# Altium schematic symbol library hphonglib.SchLib: 598 symbols (part 2 of 8)
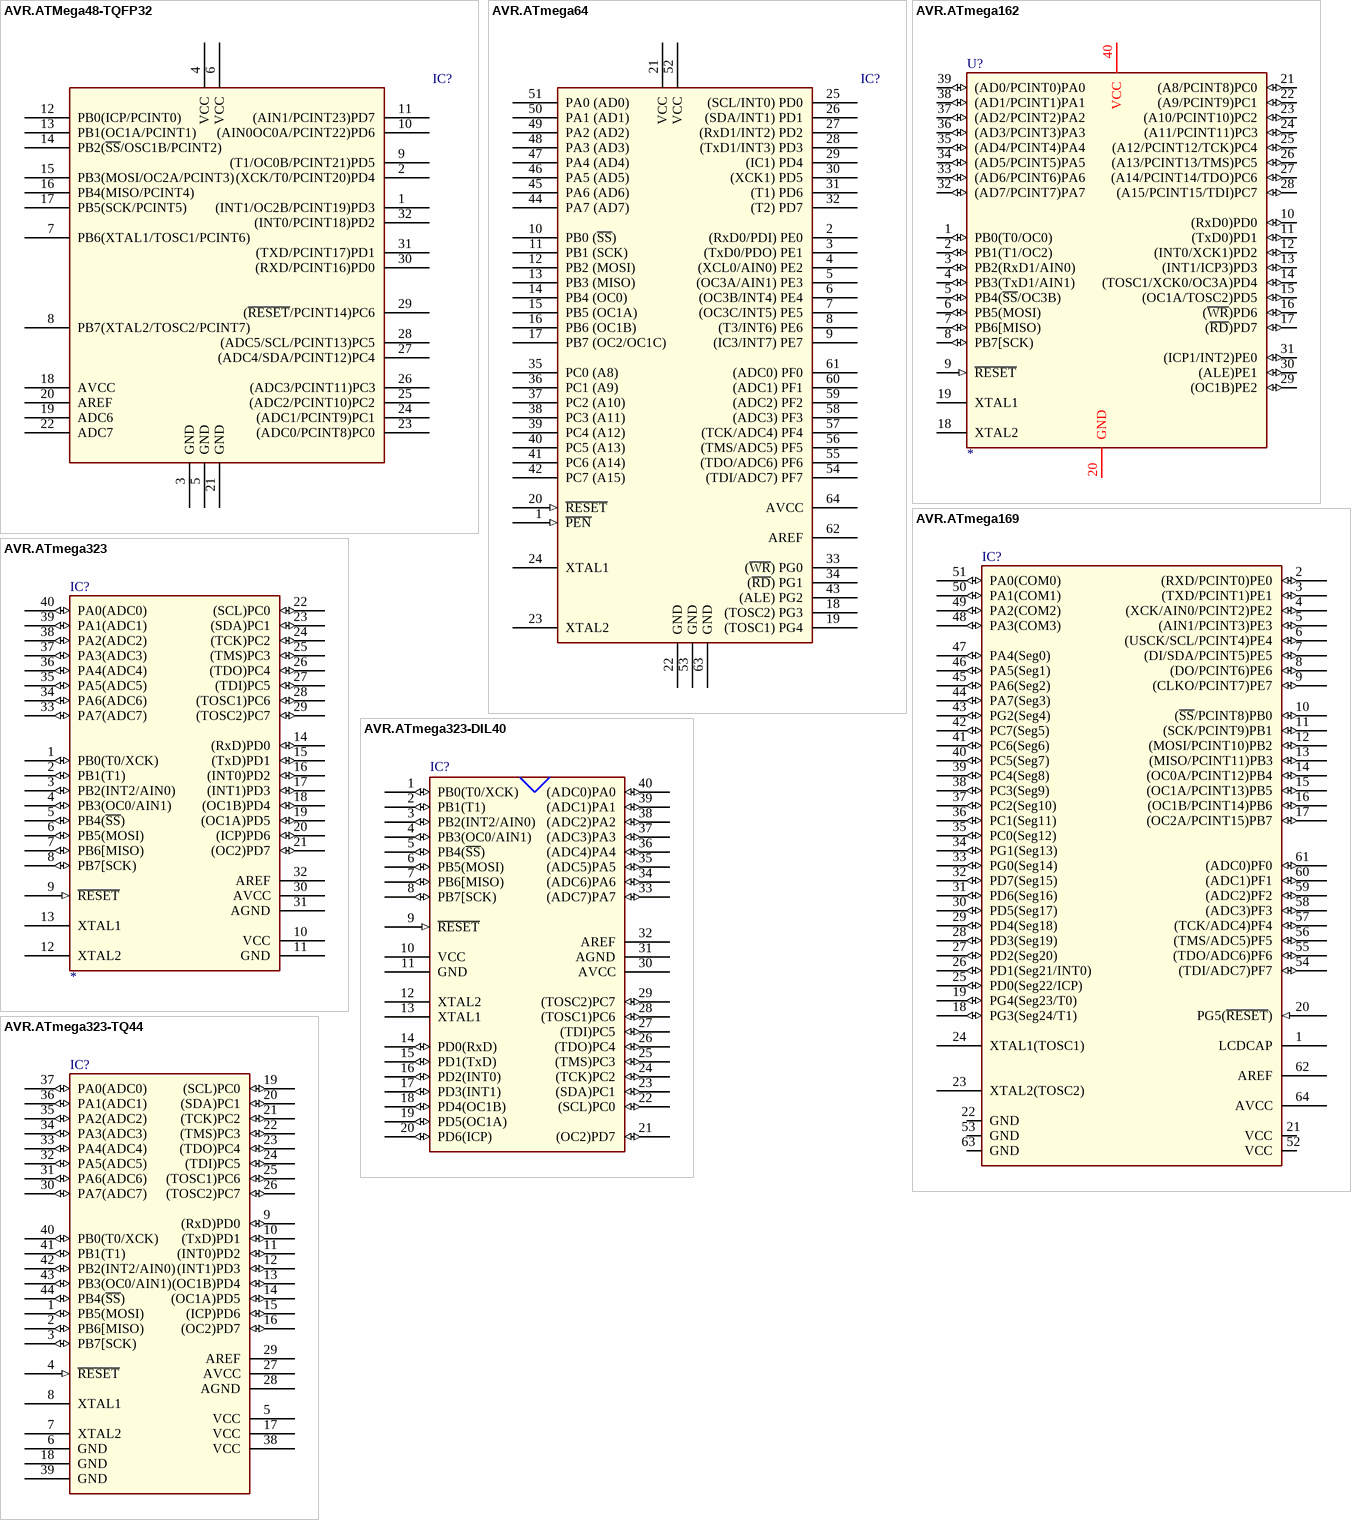
[diagram p32: symbols AVR.ATMega48-TQFP32 to AVR.ATmega323-TQ44]

## AVR.ATmega169
designator IC?  (value not drawn)
Manufacturer: Atmel; Flash: Kb; SRAM: Bytes; Volt: V; CPU Speed (MIPS): 0 MIPS; ComponentLink1Description: Degikey Part link; ComponentLink2Description: Open DataSheet; ComponentLink2URL: H:\LIBRARY\LIBRARY.Datasheet\; Publisher: Hoang Nguyen
footprint MLF64
pins: 1 LCDCAP, 2 (RXD/PCINT0)PE0 (io), 3 (TXD/PCINT1)PE1 (io), 4 (XCK/AIN0/PCINT2)PE2 (io), 5 (AIN1/PCINT3)PE3 (io), 6 (USCK/SCL/PCINT4)PE4 (io), 7 (DI/SDA/PCINT5)PE5 (io), 8 (DO/PCINT6)PE6 (io), 9 (CLKO/PCINT7)PE7 (io), 10 (~{SS}/PCINT8)PB0 (io), 11 (SCK/PCINT9)PB1 (io), 12 (MOSI/PCINT10)PB2 (io), 13 (MISO/PCINT11)PB3 (io), 14 (OC0A/PCINT12)PB4 (io), 15 (OC1A/PCINT13)PB5 (io), 16 (OC1B/PCINT14)PB6 (io), 17 (OC2A/PCINT15)PB7 (io), 18 PG3(Seg24/T1) (io), 19 PG4(Seg23/T0) (io), 20 PG5(~{RESET}) (in), 21 VCC, 22 GND, 23 XTAL2(TOSC2), 24 XTAL1(TOSC1), 25 PD0(Seg22/ICP) (io), 26 PD1(Seg21/INT0) (io), 27 PD2(Seg20) (io), 28 PD3(Seg19) (io), 29 PD4(Seg18) (io), 30 PD5(Seg17) (io), 31 PD6(Seg16) (io), 32 PD7(Seg15) (io), 33 PG0(Seg14) (io), 34 PG1(Seg13) (io), 35 PC0(Seg12) (io), 36 PC1(Seg11) (io), 37 PC2(Seg10) (io), 38 PC3(Seg9) (io), 39 PC4(Seg8) (io), 40 PC5(Seg7) (io), 41 PC6(Seg6) (io), 42 PC7(Seg5) (io), 43 PG2(Seg4) (io), 44 PA7(Seg3) (io), 45 PA6(Seg2) (io), 46 PA5(Seg1) (io), 47 PA4(Seg0) (io), 48 PA3(COM3) (io), 49 PA2(COM2) (io), 50 PA1(COM1) (io), 51 PA0(COM0) (io), 52 VCC, 53 GND, 54 (TDI/ADC7)PF7 (io), 55 (TDO/ADC6)PF6 (io), 56 (TMS/ADC5)PF5 (io), 57 (TCK/ADC4)PF4 (io), 58 (ADC3)PF3 (io), 59 (ADC2)PF2 (io), 60 (ADC1)PF1 (io), 61 (ADC0)PF0 (io), 62 AREF, 63 GND, 64 AVCC

## AVR.ATmega323
designator IC?
Manufacturer: Atmel; Flash: Kb; SRAM: Bytes; Volt: V; CPU Speed (MIPS): 0 MIPS; ComponentLink1Description: Degikey Part link; ComponentLink2Description: Open DataSheet; ComponentLink2URL: H:\LIBRARY\LIBRARY.Datasheet\; Publisher: Hoang Nguyen
footprint DIL40
pins: 1 PB0(T0/XCK) (io), 2 PB1(T1) (io), 3 PB2(INT2/AIN0) (io), 4 PB3(OC0/AIN1) (io), 5 PB4(~{SS}) (io), 6 PB5(MOSI) (io), 7 PB6[MISO) (io), 8 PB7[SCK) (io), 9 ~{RESET} (in), 10 VCC, 11 GND, 12 XTAL2, 13 XTAL1, 14 (RxD)PD0 (io), 15 (TxD)PD1 (io), 16 (INT0)PD2 (io), 17 (INT1)PD3 (io), 18 (OC1B)PD4 (io), 19 (OC1A)PD5 (io), 20 (ICP)PD6 (io), 21 (OC2)PD7 (io), 22 (SCL)PC0 (io), 23 (SDA)PC1 (io), 24 (TCK)PC2 (io), 25 (TMS)PC3 (io), 26 (TDO)PC4 (io), 27 (TDI)PC5 (io), 28 (TOSC1)PC6 (io), 29 (TOSC2)PC7 (io), 30 AVCC, 31 AGND, 32 AREF, 33 PA7(ADC7) (io), 34 PA6(ADC6) (io), 35 PA5(ADC5) (io), 36 PA4(ADC4) (io), 37 PA3(ADC3) (io), 38 PA2(ADC2) (io), 39 PA1(ADC1) (io), 40 PA0(ADC0) (io)

## AVR.ATmega323-DIL40
designator IC?  (value not drawn)
Manufacturer: Atmel; Flash: Kb; SRAM: Bytes; Volt: V; CPU Speed (MIPS): 0 MIPS; ComponentLink1Description: Degikey Part link; ComponentLink2Description: Open DataSheet; ComponentLink2URL: H:\LIBRARY\LIBRARY.Datasheet\; Publisher: Hoang Nguyen
footprint DIL40
pins: 1 PB0(T0/XCK) (io), 2 PB1(T1) (io), 3 PB2(INT2/AIN0) (io), 4 PB3(OC0/AIN1) (io), 5 PB4(~{SS}) (io), 6 PB5(MOSI) (io), 7 PB6[MISO) (io), 8 PB7[SCK) (io), 9 ~{RESET} (in), 10 VCC, 11 GND, 12 XTAL2, 13 XTAL1, 14 PD0(RxD) (io), 15 PD1(TxD) (io), 16 PD2(INT0) (io), 17 PD3(INT1) (io), 18 PD4(OC1B) (io), 19 PD5(OC1A) (io), 20 PD6(ICP) (io), 21 (OC2)PD7 (io), 22 (SCL)PC0 (io), 23 (SDA)PC1 (io), 24 (TCK)PC2 (io), 25 (TMS)PC3 (io), 26 (TDO)PC4 (io), 27 (TDI)PC5 (io), 28 (TOSC1)PC6 (io), 29 (TOSC2)PC7 (io), 30 AVCC, 31 AGND, 32 AREF, 33 (ADC7)PA7 (io), 34 (ADC6)PA6 (io), 35 (ADC5)PA5 (io), 36 (ADC4)PA4 (io), 37 (ADC3)PA3 (io), 38 (ADC2)PA2 (io), 39 (ADC1)PA1 (io), 40 (ADC0)PA0 (io)

## AVR.ATmega323-TQ44
designator IC?  (value not drawn)
Manufacturer: Atmel; Flash: Kb; SRAM: Bytes; Volt: V; CPU Speed (MIPS): 0 MIPS; ComponentLink1Description: Degikey Part link; ComponentLink2Description: Open DataSheet; ComponentLink2URL: H:\LIBRARY\LIBRARY.Datasheet\; Publisher: Hoang Nguyen
footprint TQFP44
pins: 1 PB5(MOSI) (io), 2 PB6[MISO) (io), 3 PB7[SCK) (io), 4 ~{RESET} (in), 5 VCC, 6 GND, 7 XTAL2, 8 XTAL1, 9 (RxD)PD0 (io), 10 (TxD)PD1 (io), 11 (INT0)PD2 (io), 12 (INT1)PD3 (io), 13 (OC1B)PD4 (io), 14 (OC1A)PD5 (io), 15 (ICP)PD6 (io), 16 (OC2)PD7 (io), 17 VCC, 18 GND, 19 (SCL)PC0 (io), 20 (SDA)PC1 (io), 21 (TCK)PC2 (io), 22 (TMS)PC3 (io), 23 (TDO)PC4 (io), 24 (TDI)PC5 (io), 25 (TOSC1)PC6 (io), 26 (TOSC2)PC7 (io), 27 AVCC, 28 AGND, 29 AREF, 30 PA7(ADC7) (io), 31 PA6(ADC6) (io), 32 PA5(ADC5) (io), 33 PA4(ADC4) (io), 34 PA3(ADC3) (io), 35 PA2(ADC2) (io), 36 PA1(ADC1) (io), 37 PA0(ADC0) (io), 38 VCC, 39 GND, 40 PB0(T0/XCK) (io), 41 PB1(T1) (io), 42 PB2(INT2/AIN0) (io), 43 PB3(OC0/AIN1) (io), 44 PB4(~{SS}) (io)

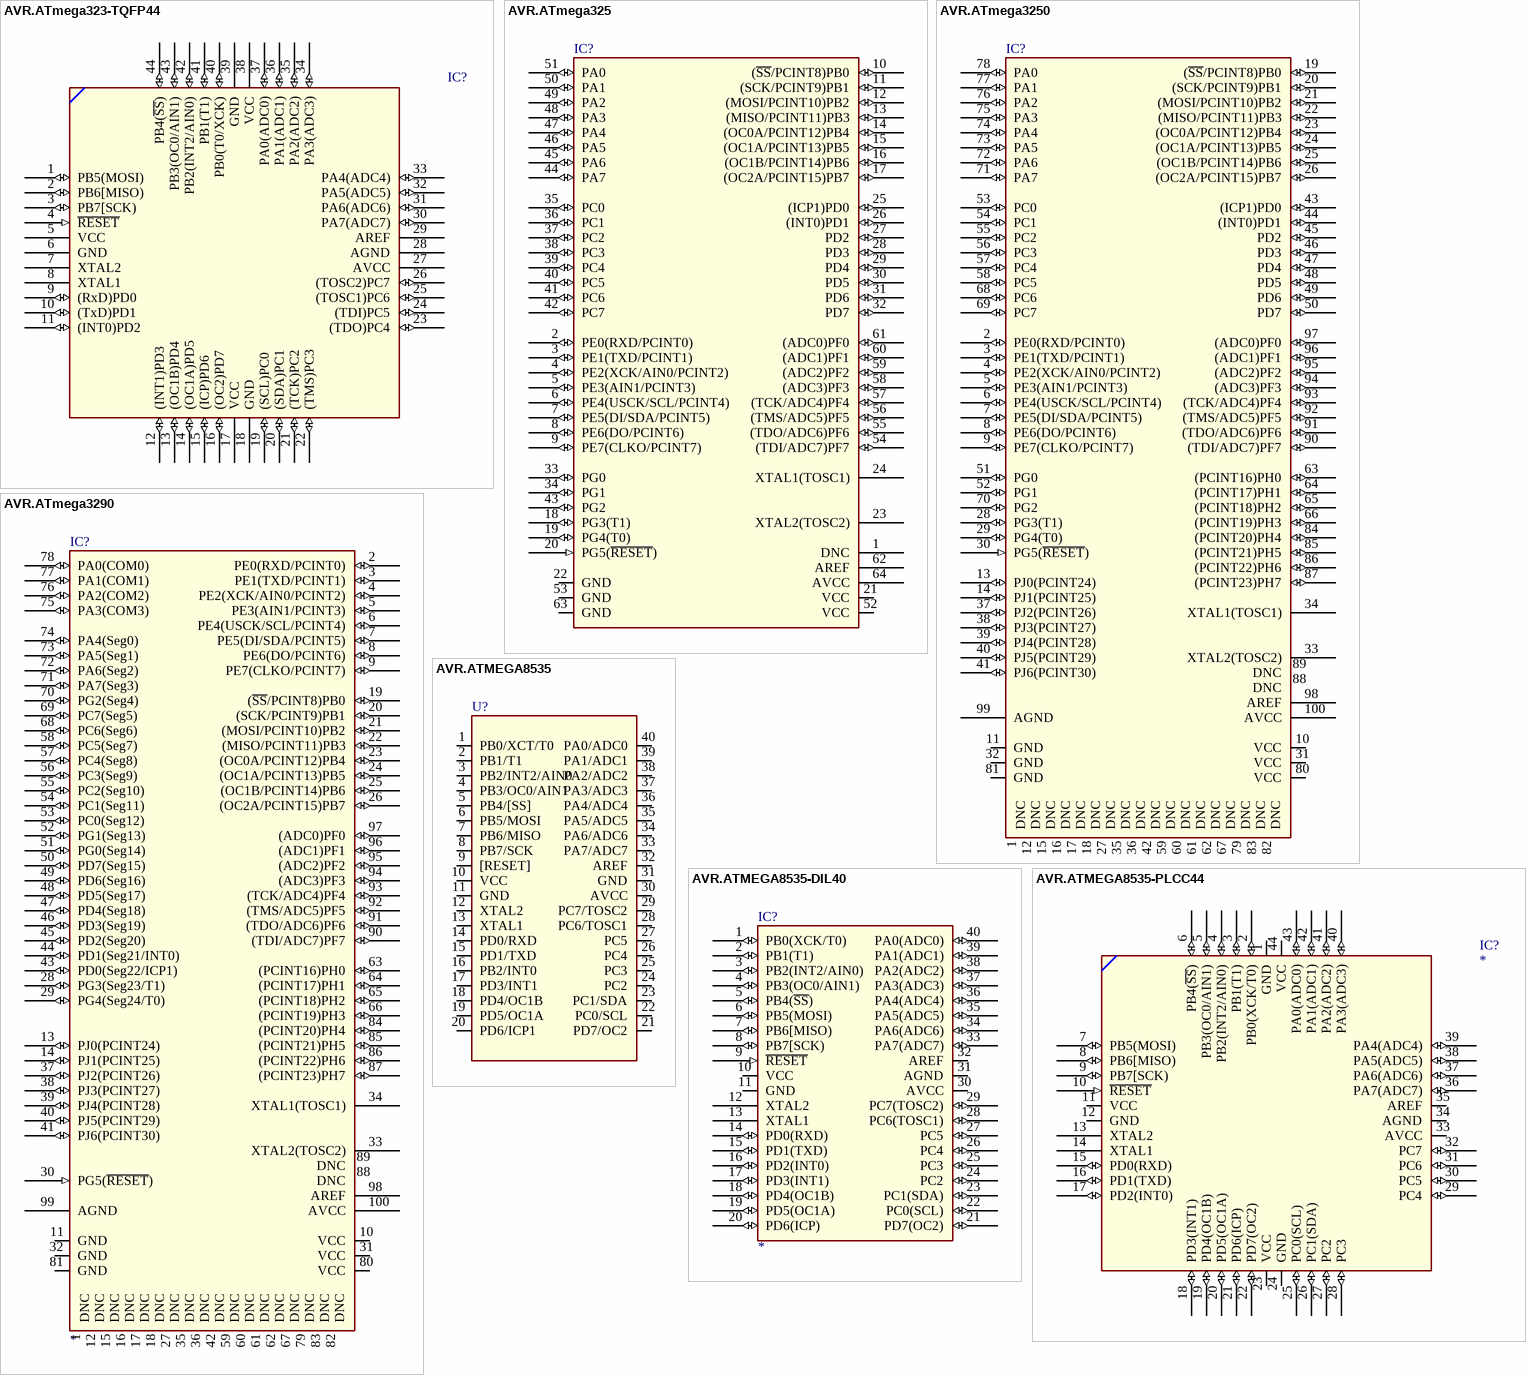
[diagram p5: symbols AVR.ATmega323-TQFP44 to AVR.ATMEGA8535-PLCC44]

## AVR.ATmega323-TQFP44
designator IC?  (value not drawn)
Manufacturer: Atmel; Flash: Kb; SRAM: Bytes; Volt: V; CPU Speed (MIPS): 0 MIPS; ComponentLink1Description: Degikey Part link; ComponentLink2Description: Open DataSheet; ComponentLink2URL: H:\LIBRARY\LIBRARY.Datasheet\; Publisher: Hoang Nguyen
footprint TQFP44
pins: 1 PB5(MOSI) (io), 2 PB6[MISO) (io), 3 PB7[SCK) (io), 4 ~{RESET} (in), 5 VCC, 6 GND, 7 XTAL2, 8 XTAL1, 9 (RxD)PD0 (io), 10 (TxD)PD1 (io), 11 (INT0)PD2 (io), 12 (INT1)PD3 (io), 13 (OC1B)PD4 (io), 14 (OC1A)PD5 (io), 15 (ICP)PD6 (io), 16 (OC2)PD7 (io), 17 VCC, 18 GND, 19 (SCL)PC0 (io), 20 (SDA)PC1 (io), 21 (TCK)PC2 (io), 22 (TMS)PC3 (io), 23 (TDO)PC4 (io), 24 (TDI)PC5 (io), 25 (TOSC1)PC6 (io), 26 (TOSC2)PC7 (io), 27 AVCC, 28 AGND, 29 AREF, 30 PA7(ADC7) (io), 31 PA6(ADC6) (io), 32 PA5(ADC5) (io), 33 PA4(ADC4) (io), 34 PA3(ADC3) (io), 35 PA2(ADC2) (io), 36 PA1(ADC1) (io), 37 PA0(ADC0) (io), 38 VCC, 39 GND, 40 PB0(T0/XCK) (io), 41 PB1(T1) (io), 42 PB2(INT2/AIN0) (io), 43 PB3(OC0/AIN1) (io), 44 PB4(~{SS}) (io)

## AVR.ATmega325
designator IC?  (value not drawn)
Manufacturer: Atmel; Flash: Kb; SRAM: Bytes; Volt: V; CPU Speed (MIPS): 0 MIPS; ComponentLink1Description: Degikey Part link; ComponentLink2Description: Open DataSheet; ComponentLink2URL: H:\LIBRARY\LIBRARY.Datasheet\; Publisher: Hoang Nguyen
footprint TQFP/MLF64
pins: 1 DNC, 2 PE0(RXD/PCINT0) (io), 3 PE1(TXD/PCINT1) (io), 4 PE2(XCK/AIN0/PCINT2) (io), 5 PE3(AIN1/PCINT3) (io), 6 PE4(USCK/SCL/PCINT4) (io), 7 PE5(DI/SDA/PCINT5) (io), 8 PE6(DO/PCINT6) (io), 9 PE7(CLKO/PCINT7) (io), 10 (~{SS}/PCINT8)PB0 (io), 11 (SCK/PCINT9)PB1 (io), 12 (MOSI/PCINT10)PB2 (io), 13 (MISO/PCINT11)PB3 (io), 14 (OC0A/PCINT12)PB4 (io), 15 (OC1A/PCINT13)PB5 (io), 16 (OC1B/PCINT14)PB6 (io), 17 (OC2A/PCINT15)PB7 (io), 18 PG3(T1) (io), 19 PG4(T0) (io), 20 PG5(~{RESET}) (in), 21 VCC, 22 GND, 23 XTAL2(TOSC2), 24 XTAL1(TOSC1), 25 (ICP1)PD0 (io), 26 (INT0)PD1 (io), 27 PD2 (io), 28 PD3 (io), 29 PD4 (io), 30 PD5 (io), 31 PD6 (io), 32 PD7 (io), 33 PG0 (io), 34 PG1 (io), 35 PC0 (io), 36 PC1 (io), 37 PC2 (io), 38 PC3 (io), 39 PC4 (io), 40 PC5 (io), 41 PC6 (io), 42 PC7 (io), 43 PG2 (io), 44 PA7 (io), 45 PA6 (io), 46 PA5 (io), 47 PA4 (io), 48 PA3 (io), 49 PA2 (io), 50 PA1 (io), 51 PA0 (io), 52 VCC, 53 GND, 54 (TDI/ADC7)PF7 (io), 55 (TDO/ADC6)PF6 (io), 56 (TMS/ADC5)PF5 (io), 57 (TCK/ADC4)PF4 (io), 58 (ADC3)PF3 (io), 59 (ADC2)PF2 (io), 60 (ADC1)PF1 (io), 61 (ADC0)PF0 (io), 62 AREF, 63 GND, 64 AVCC

## AVR.ATmega3250
designator IC?  (value not drawn)
Manufacturer: Atmel; Flash: Kb; SRAM: Bytes; Volt: V; CPU Speed (MIPS): 0 MIPS; ComponentLink1Description: Degikey Part link; ComponentLink2Description: Open DataSheet; ComponentLink2URL: H:\LIBRARY\LIBRARY.Datasheet\; Publisher: Hoang Nguyen
footprint TQFP100
pins: 1 DNC, 2 PE0(RXD/PCINT0) (io), 3 PE1(TXD/PCINT1) (io), 4 PE2(XCK/AIN0/PCINT2) (io), 5 PE3(AIN1/PCINT3) (io), 6 PE4(USCK/SCL/PCINT4) (io), 7 PE5(DI/SDA/PCINT5) (io), 8 PE6(DO/PCINT6) (io), 9 PE7(CLKO/PCINT7) (io), 10 VCC, 11 GND, 12 DNC, 13 PJ0(PCINT24) (io), 14 PJ1(PCINT25) (io), 15 DNC, 16 DNC, 17 DNC, 18 DNC, 19 (~{SS}/PCINT8)PB0 (io), 20 (SCK/PCINT9)PB1 (io), 21 (MOSI/PCINT10)PB2 (io), 22 (MISO/PCINT11)PB3 (io), 23 (OC0A/PCINT12)PB4 (io), 24 (OC1A/PCINT13)PB5 (io), 25 (OC1B/PCINT14)PB6 (io), 26 (OC2A/PCINT15)PB7 (io), 27 DNC, 28 PG3(T1) (io), 29 PG4(T0) (io), 30 PG5(~{RESET}) (in), 31 VCC, 32 GND, 33 XTAL2(TOSC2), 34 XTAL1(TOSC1), 35 DNC, 36 DNC, 37 PJ2(PCINT26) (io), 38 PJ3(PCINT27) (io), 39 PJ4(PCINT28) (io), 40 PJ5(PCINT29) (io), 41 PJ6(PCINT30) (io), 42 DNC, 43 (ICP1)PD0 (io), 44 (INT0)PD1 (io), 45 PD2 (io), 46 PD3 (io), 47 PD4 (io), 48 PD5 (io), 49 PD6 (io), 50 PD7 (io), 51 PG0 (io), 52 PG1 (io), 53 PC0 (io), 54 PC1 (io), 55 PC2 (io), 56 PC3 (io), 57 PC4 (io), 58 PC5 (io), 59 DNC, 60 DNC, 61 DNC, 62 DNC, 63 (PCINT16)PH0 (io), 64 (PCINT17)PH1 (io), 65 (PCINT18)PH2 (io), 66 (PCINT19)PH3 (io), 67 DNC, 68 PC6 (io), 69 PC7 (io), 70 PG2 (io), 71 PA7 (io), 72 PA6 (io), 73 PA5 (io), 74 PA4 (io), 75 PA3 (io), 76 PA2 (io), 77 PA1 (io), 78 PA0 (io), 79 DNC, 80 VCC, 81 GND, 82 DNC, 83 DNC, 84 (PCINT20)PH4 (io), 85 (PCINT21)PH5 (io), 86 (PCINT22)PH6 (io), 87 (PCINT23)PH7 (io), 88 DNC, 89 DNC, 90 (TDI/ADC7)PF7 (io), 91 (TDO/ADC6)PF6 (io), 92 (TMS/ADC5)PF5 (io), 93 (TCK/ADC4)PF4 (io), 94 (ADC3)PF3 (io), 95 (ADC2)PF2 (io), 96 (ADC1)PF1 (io), 97 (ADC0)PF0 (io), 98 AREF, 99 AGND, 100 AVCC

## AVR.ATmega3290
designator IC?
Manufacturer: Atmel; Flash: Kb; SRAM: Bytes; Volt: V; CPU Speed (MIPS): 0 MIPS; ComponentLink1Description: Degikey Part link; ComponentLink2Description: Open DataSheet; ComponentLink2URL: H:\LIBRARY\LIBRARY.Datasheet\; Publisher: Hoang Nguyen
footprint TQFP100
pins: 1 DNC, 2 PE0(RXD/PCINT0) (io), 3 PE1(TXD/PCINT1) (io), 4 PE2(XCK/AIN0/PCINT2) (io), 5 PE3(AIN1/PCINT3) (io), 6 PE4(USCK/SCL/PCINT4) (io), 7 PE5(DI/SDA/PCINT5) (io), 8 PE6(DO/PCINT6) (io), 9 PE7(CLKO/PCINT7) (io), 10 VCC, 11 GND, 12 DNC, 13 PJ0(PCINT24) (io), 14 PJ1(PCINT25) (io), 15 DNC, 16 DNC, 17 DNC, 18 DNC, 19 (~{SS}/PCINT8)PB0 (io), 20 (SCK/PCINT9)PB1 (io), 21 (MOSI/PCINT10)PB2 (io), 22 (MISO/PCINT11)PB3 (io), 23 (OC0A/PCINT12)PB4 (io), 24 (OC1A/PCINT13)PB5 (io), 25 (OC1B/PCINT14)PB6 (io), 26 (OC2A/PCINT15)PB7 (io), 27 DNC, 28 PG3(Seg23/T1) (io), 29 PG4(Seg24/T0) (io), 30 PG5(~{RESET}) (in), 31 VCC, 32 GND, 33 XTAL2(TOSC2), 34 XTAL1(TOSC1), 35 DNC, 36 DNC, 37 PJ2(PCINT26) (io), 38 PJ3(PCINT27) (io), 39 PJ4(PCINT28) (io), 40 PJ5(PCINT29) (io), 41 PJ6(PCINT30) (io), 42 DNC, 43 PD0(Seg22/ICP1) (io), 44 PD1(Seg21/INT0) (io), 45 PD2(Seg20) (io), 46 PD3(Seg19) (io), 47 PD4(Seg18) (io), 48 PD5(Seg17) (io), 49 PD6(Seg16) (io), 50 PD7(Seg15) (io), 51 PG0(Seg14) (io), 52 PG1(Seg13) (io), 53 PC0(Seg12) (io), 54 PC1(Seg11) (io), 55 PC2(Seg10) (io), 56 PC3(Seg9) (io), 57 PC4(Seg8) (io), 58 PC5(Seg7) (io), 59 DNC, 60 DNC, 61 DNC, 62 DNC, 63 (PCINT16)PH0 (io), 64 (PCINT17)PH1 (io), 65 (PCINT18)PH2 (io), 66 (PCINT19)PH3 (io), 67 DNC, 68 PC6(Seg6) (io), 69 PC7(Seg5) (io), 70 PG2(Seg4) (io), 71 PA7(Seg3) (io), 72 PA6(Seg2) (io), 73 PA5(Seg1) (io), 74 PA4(Seg0) (io), 75 PA3(COM3) (io), 76 PA2(COM2) (io), 77 PA1(COM1) (io), 78 PA0(COM0) (io), 79 DNC, 80 VCC, 81 GND, 82 DNC, 83 DNC, 84 (PCINT20)PH4 (io), 85 (PCINT21)PH5 (io), 86 (PCINT22)PH6 (io), 87 (PCINT23)PH7 (io), 88 DNC, 89 DNC, 90 (TDI/ADC7)PF7 (io), 91 (TDO/ADC6)PF6 (io), 92 (TMS/ADC5)PF5 (io), 93 (TCK/ADC4)PF4 (io), 94 (ADC3)PF3 (io), 95 (ADC2)PF2 (io), 96 (ADC1)PF1 (io), 97 (ADC0)PF0 (io), 98 AREF, 99 AGND, 100 AVCC

## AVR.ATMEGA8535
designator U?  (value not drawn)
Atmel AVR MCU; Flash: Kb; SRAM: Bytes; Volt: V; CPU Speed (MIPS): 0 MIPS; ComponentLink1Description: Degikey Part link; ComponentLink2Description: Open DataSheet; ComponentLink2URL: H:\LIBRARY\LIBRARY.Datasheet\; Manufacturer: Atmel; Publisher: Hoang Nguyen
footprint IC40N
pins: 1 PB0/XCT/T0, 2 PB1/T1, 3 PB2/INT2/AIN0, 4 PB3/OC0/AIN1, 5 PB4/[SS], 6 PB5/MOSI, 7 PB6/MISO, 8 PB7/SCK, 9 [RESET], 10 VCC, 11 GND, 12 XTAL2, 13 XTAL1, 14 PD0/RXD, 15 PD1/TXD, 16 PB2/INT0, 17 PD3/INT1, 18 PD4/OC1B, 19 PD5/OC1A, 20 PD6/ICP1, 21 PD7/OC2, 22 PC0/SCL, 23 PC1/SDA, 24 PC2, 25 PC3, 26 PC4, 27 PC5, 28 PC6/TOSC1, 29 PC7/TOSC2, 30 AVCC, 31 GND, 32 AREF, 33 PA7/ADC7, 34 PA6/ADC6, 35 PA5/ADC5, 36 PA4/ADC4, 37 PA3/ADC3, 38 PA2/ADC2, 39 PA1/ADC1, 40 PA0/ADC0

## AVR.ATMEGA8535-DIL40
designator IC?
Manufacturer: Atmel; Flash: Kb; SRAM: Bytes; Volt: V; CPU Speed (MIPS): 0 MIPS; ComponentLink1Description: Degikey Part link; ComponentLink2Description: Open DataSheet; ComponentLink2URL: H:\LIBRARY\LIBRARY.Datasheet\; Publisher: Hoang Nguyen
pins: 1 PB0(XCK/T0) (io), 2 PB1(T1) (io), 3 PB2(INT2/AIN0) (io), 4 PB3(OC0/AIN1) (io), 5 PB4(~{SS}) (io), 6 PB5(MOSI) (io), 7 PB6[MISO) (io), 8 PB7[SCK) (io), 9 ~{RESET} (in), 10 VCC, 11 GND, 12 XTAL2, 13 XTAL1, 14 PD0(RXD) (io), 15 PD1(TXD) (io), 16 PD2(INT0) (io), 17 PD3(INT1) (io), 18 PD4(OC1B) (io), 19 PD5(OC1A) (io), 20 PD6(ICP) (io), 21 PD7(OC2) (io), 22 PC0(SCL) (io), 23 PC1(SDA) (io), 24 PC2 (io), 25 PC3 (io), 26 PC4 (io), 27 PC5 (io), 28 PC6(TOSC1) (io), 29 PC7(TOSC2) (io), 30 AVCC, 31 AGND, 32 AREF, 33 PA7(ADC7) (io), 34 PA6(ADC6) (io), 35 PA5(ADC5) (io), 36 PA4(ADC4) (io), 37 PA3(ADC3) (io), 38 PA2(ADC2) (io), 39 PA1(ADC1) (io), 40 PA0(ADC0) (io)

## AVR.ATMEGA8535-PLCC44
designator IC?
Manufacturer: Atmel; Flash: Kb; SRAM: Bytes; Volt: V; CPU Speed (MIPS): 0 MIPS; ComponentLink1Description: Degikey Part link; ComponentLink2Description: Open DataSheet; ComponentLink2URL: H:\LIBRARY\LIBRARY.Datasheet\; Publisher: Hoang Nguyen
pins: 1 GND, 2 PB0(XCK/T0) (io), 3 PB1(T1) (io), 4 PB2(INT2/AIN0) (io), 5 PB3(OC0/AIN1) (io), 6 PB4(~{SS}) (io), 7 PB5(MOSI) (io), 8 PB6[MISO) (io), 9 PB7[SCK) (io), 10 ~{RESET} (in), 11 VCC, 12 GND, 13 XTAL2, 14 XTAL1, 15 PD0(RXD) (io), 16 PD1(TXD) (io), 17 PD2(INT0) (io), 18 PD3(INT1) (io), 19 PD4(OC1B) (io), 20 PD5(OC1A) (io), 21 PD6(ICP) (io), 22 PD7(OC2) (io), 23 VCC, 24 GND, 25 PC0(SCL) (io), 26 PC1(SDA) (io), 27 PC2 (io), 28 PC3 (io), 29 PC4 (io), 30 PC5 (io), 31 PC6 (io), 32 PC7 (io), 33 AVCC, 34 AGND, 35 AREF, 36 PA7(ADC7) (io), 37 PA6(ADC6) (io), 38 PA5(ADC5) (io), 39 PA4(ADC4) (io), 40 PA3(ADC3) (io), 41 PA2(ADC2) (io), 42 PA1(ADC1) (io), 43 PA0(ADC0) (io), 44 VCC

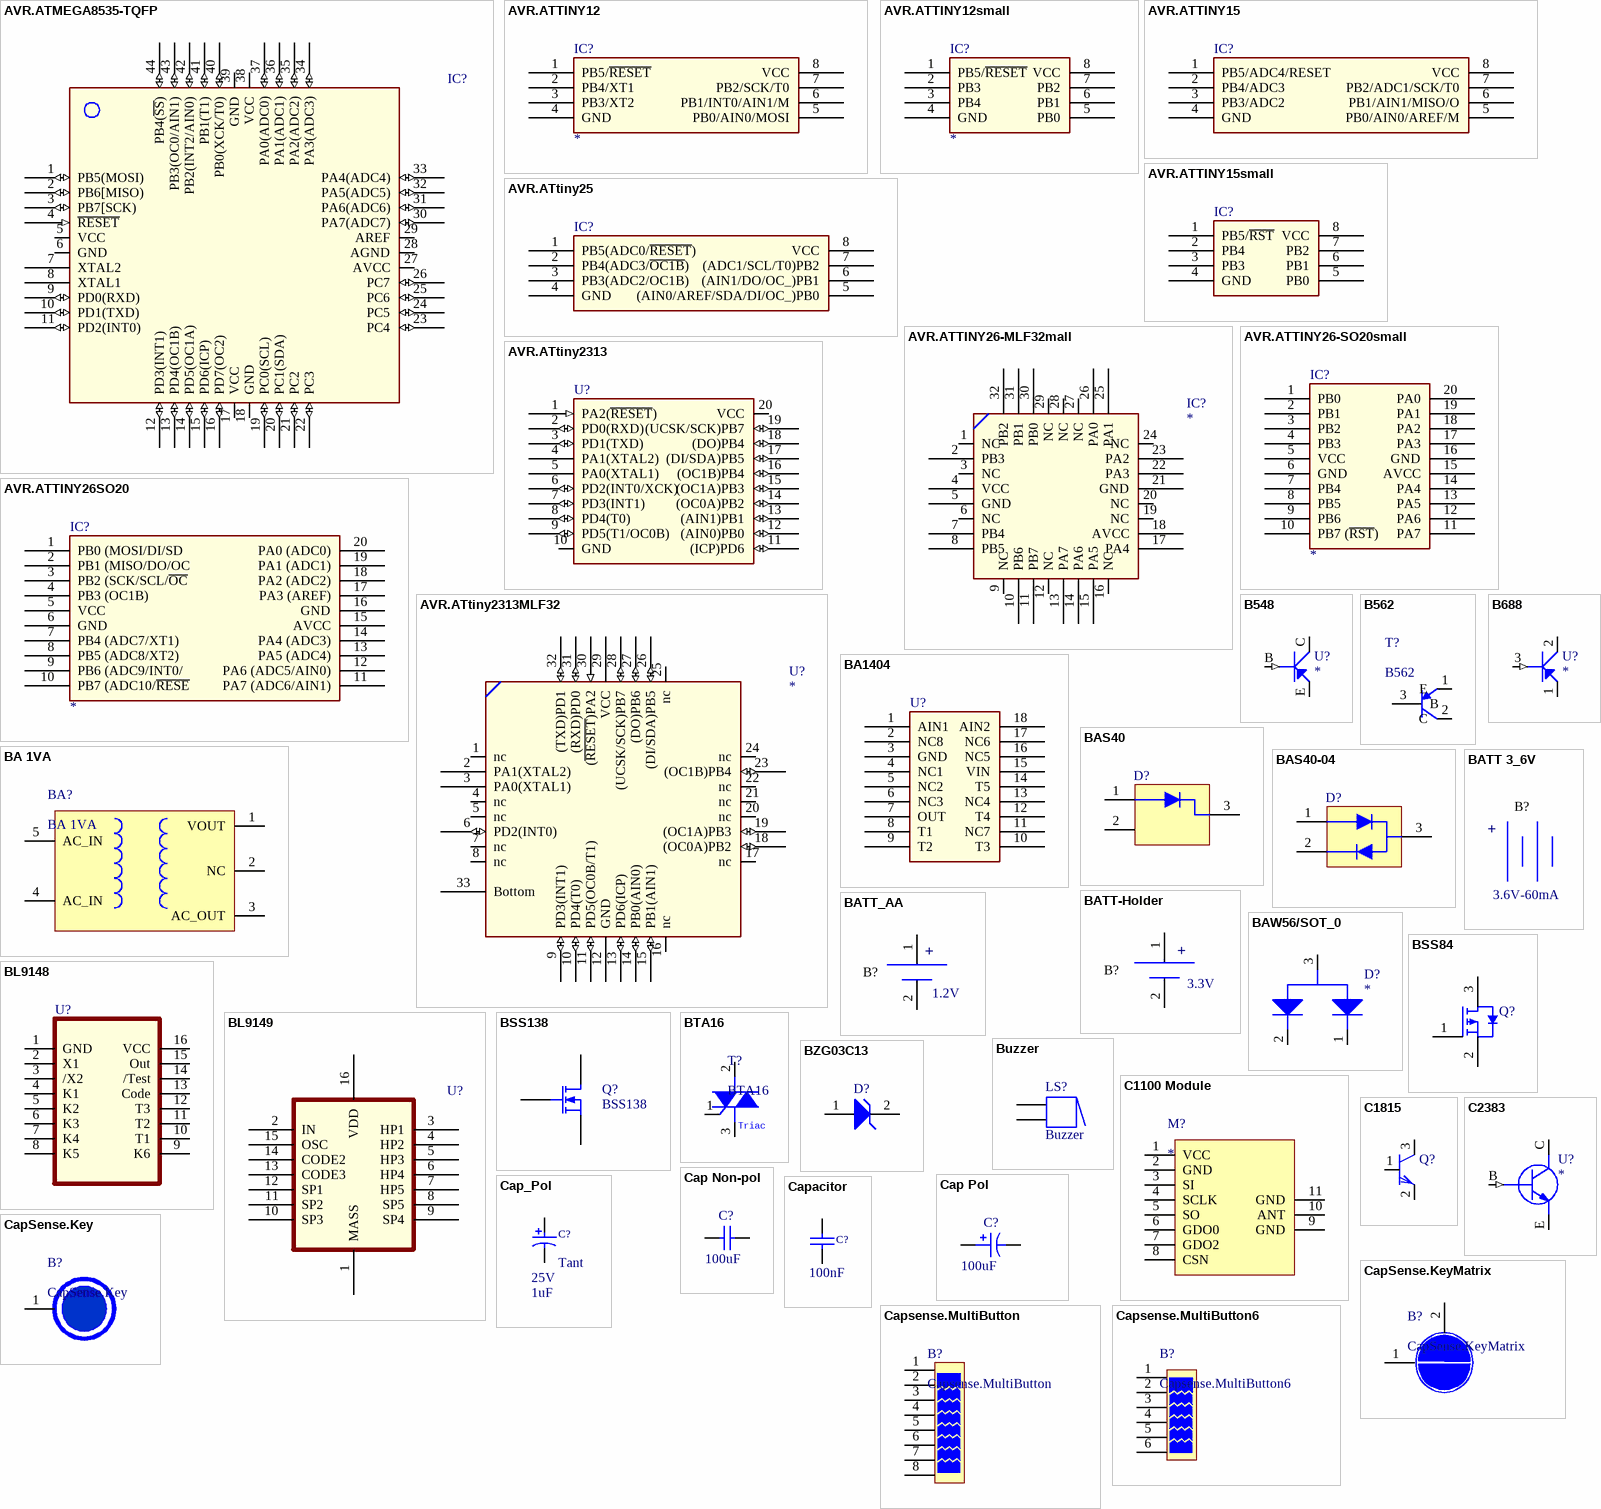
[diagram p6: symbols AVR.ATMEGA8535-TQFP to Capsense.MultiButton6]

## AVR.ATMEGA8535-TQFP
designator IC?  (value not drawn)
Manufacturer: Atmel; Flash: Kb; SRAM: Bytes; Volt: V; CPU Speed (MIPS): 0 MIPS; ComponentLink1Description: Degikey Part link; ComponentLink2Description: Open DataSheet; ComponentLink2URL: H:\LIBRARY\LIBRARY.Datasheet\; Publisher: Hoang Nguyen
pins: 1 PB5(MOSI) (io), 2 PB6[MISO) (io), 3 PB7[SCK) (io), 4 ~{RESET} (in), 5 VCC, 6 GND, 7 XTAL2, 8 XTAL1, 9 PD0(RXD) (io), 10 PD1(TXD) (io), 11 PD2(INT0) (io), 12 PD3(INT1) (io), 13 PD4(OC1B) (io), 14 PD5(OC1A) (io), 15 PD6(ICP) (io), 16 PD7(OC2) (io), 17 VCC, 18 GND, 19 PC0(SCL) (io), 20 PC1(SDA) (io), 21 PC2 (io), 22 PC3 (io), 23 PC4 (io), 24 PC5 (io), 25 PC6 (io), 26 PC7 (io), 27 AVCC, 28 AGND, 29 AREF, 30 PA7(ADC7) (io), 31 PA6(ADC6) (io), 32 PA5(ADC5) (io), 33 PA4(ADC4) (io), 34 PA3(ADC3) (io), 35 PA2(ADC2) (io), 36 PA1(ADC1) (io), 37 PA0(ADC0) (io), 38 VCC, 39 GND, 40 PB0(XCK/T0) (io), 41 PB1(T1) (io), 42 PB2(INT2/AIN0) (io), 43 PB3(OC0/AIN1) (io), 44 PB4(~{SS}) (io)

## AVR.ATTINY12
designator IC?
Manufacturer: Atmel; Flash: Kb; SRAM: Bytes; Volt: V; CPU Speed (MIPS): 0 MIPS; ComponentLink1Description: Degikey Part link; ComponentLink2Description: Open DataSheet; ComponentLink2URL: H:\LIBRARY\LIBRARY.Datasheet\; Publisher: Hoang Nguyen
pins: 1 PB5/~{RESET}, 2 PB4/XT1, 3 PB3/XT2, 4 GND, 5 PB0/AIN0/MOSI, 6 PB1/INT0/AIN1/M, 7 PB2/SCK/T0, 8 VCC

## AVR.ATTINY12small
designator IC?
Manufacturer: Atmel; Flash: Kb; SRAM: Bytes; Volt: V; CPU Speed (MIPS): 0 MIPS; ComponentLink1Description: Degikey Part link; ComponentLink2Description: Open DataSheet; ComponentLink2URL: H:\LIBRARY\LIBRARY.Datasheet\; Publisher: Hoang Nguyen
pins: 1 PB5/~{RESET}, 2 PB3, 3 PB4, 4 GND, 5 PB0, 6 PB1, 7 PB2, 8 VCC

## AVR.ATTINY15
designator IC?  (value not drawn)
Manufacturer: Atmel; Flash: Kb; SRAM: Bytes; Volt: V; CPU Speed (MIPS): 0 MIPS; ComponentLink1Description: Degikey Part link; ComponentLink2Description: Open DataSheet; ComponentLink2URL: H:\LIBRARY\LIBRARY.Datasheet\; Publisher: Hoang Nguyen
pins: 1 PB5/ADC4/RESET, 2 PB4/ADC3, 3 PB3/ADC2, 4 GND, 5 PB0/AIN0/AREF/M, 6 PB1/AIN1/MISO/O, 7 PB2/ADC1/SCK/T0, 8 VCC

## AVR.ATTINY15small
designator IC?  (value not drawn)
Manufacturer: Atmel; Flash: Kb; SRAM: Bytes; Volt: V; CPU Speed (MIPS): 0 MIPS; ComponentLink1Description: Degikey Part link; ComponentLink2Description: Open DataSheet; ComponentLink2URL: H:\LIBRARY\LIBRARY.Datasheet\; Publisher: Hoang Nguyen
pins: 1 PB5/~{RST}, 2 PB4, 3 PB3, 4 GND, 5 PB0, 6 PB1, 7 PB2, 8 VCC

## AVR.ATtiny25
designator IC?  (value not drawn)
Manufacturer: Atmel; Flash: Kb; SRAM: Bytes; Volt: V; CPU Speed (MIPS): 0 MIPS; ComponentLink1Description: Degikey Part link; ComponentLink2Description: Open DataSheet; ComponentLink2URL: H:\LIBRARY\LIBRARY.Datasheet\; Publisher: Hoang Nguyen
footprint DIL/SO8
pins: 1 PB5(ADC0/~{RESET}), 2 PB4(ADC3/~{OC1B}), 3 PB3(ADC2/OC1B), 4 GND, 5 (AIN0/AREF/SDA/DI/OC_)PB0, 6 (AIN1/DO/OC_)PB1, 7 (ADC1/SCL/T0)PB2, 8 VCC

## AVR.ATTINY26-MLF32mall
designator IC?
Manufacturer: Atmel; Flash: Kb; SRAM: Bytes; Volt: V; CPU Speed (MIPS): 0 MIPS; ComponentLink1Description: Degikey Part link; ComponentLink2Description: Open DataSheet; ComponentLink2URL: H:\LIBRARY\LIBRARY.Datasheet\; Publisher: Hoang Nguyen
pins: 1 NC, 2 PB3 (hiz), 3 NC, 4 VCC, 5 GND, 6 NC, 7 PB4 (hiz), 8 PB5 (hiz), 9 NC, 10 PB6 (hiz), 11 PB7 (hiz), 12 NC, 13 PA7 (hiz), 14 PA6 (hiz), 15 PA5 (hiz), 16 NC, 17 PA4 (hiz), 18 AVCC, 19 NC, 20 NC, 21 GND, 22 PA3 (hiz), 23 PA2 (hiz), 24 NC, 25 PA1 (hiz), 26 PA0 (hiz), 27 NC, 28 NC, 29 NC, 30 PB0 (hiz), 31 PB1 (hiz), 32 PB2 (hiz)

## AVR.ATTINY26-SO20small
designator IC?
Manufacturer: Atmel; Flash: Kb; SRAM: Bytes; Volt: V; CPU Speed (MIPS): 0 MIPS; ComponentLink1Description: Degikey Part link; ComponentLink2Description: Open DataSheet; ComponentLink2URL: H:\LIBRARY\LIBRARY.Datasheet\; Publisher: Hoang Nguyen
pins: 1 PB0 (hiz), 2 PB1 (hiz), 3 PB2 (hiz), 4 PB3 (hiz), 5 VCC, 6 GND, 7 PB4 (hiz), 8 PB5 (hiz), 9 PB6 (hiz), 10 PB7 (~{RST}) (hiz), 11 PA7 (hiz), 12 PA6 (hiz), 13 PA5 (hiz), 14 PA4 (hiz), 15 AVCC, 16 GND, 17 PA3 (hiz), 18 PA2 (hiz), 19 PA1 (hiz), 20 PA0 (hiz)

## AVR.ATTINY26SO20
designator IC?
Manufacturer: Atmel; Flash: Kb; SRAM: Bytes; Volt: V; CPU Speed (MIPS): 0 MIPS; ComponentLink1Description: Degikey Part link; ComponentLink2Description: Open DataSheet; ComponentLink2URL: H:\LIBRARY\LIBRARY.Datasheet\; Publisher: Hoang Nguyen
pins: 1 PB0 (MOSI/DI/SD (hiz), 2 PB1 (MISO/DO/OC (hiz), 3 PB2 (SCK/SCL/~{OC} (hiz), 4 PB3 (OC1B) (hiz), 5 VCC, 6 GND, 7 PB4 (ADC7/XT1) (hiz), 8 PB5 (ADC8/XT2) (hiz), 9 PB6 (ADC9/INT0/ (hiz), 10 PB7 (ADC10/~{RESE} (hiz), 11 PA7 (ADC6/AIN1) (hiz), 12 PA6 (ADC5/AIN0) (hiz), 13 PA5 (ADC4) (hiz), 14 PA4 (ADC3) (hiz), 15 AVCC, 16 GND, 17 PA3 (AREF) (hiz), 18 PA2 (ADC2) (hiz), 19 PA1 (ADC1) (hiz), 20 PA0 (ADC0) (hiz)

## AVR.ATtiny2313
designator U?  (value not drawn)
Manufacturer: Atmel; Flash: Kb; SRAM: Bytes; Volt: V; CPU Speed (MIPS): 0 MIPS; ComponentLink1Description: Degikey Part link; ComponentLink2Description: Open DataSheet; ComponentLink2URL: H:\LIBRARY\LIBRARY.Datasheet\; Publisher: Hoang Nguyen
pins: 1 PA2(~{RESET}) (in), 2 PD0(RXD) (io), 3 PD1(TXD) (io), 4 PA1(XTAL2), 5 PA0(XTAL1), 6 PD2(INT0/XCK) (io), 7 PD3(INT1) (io), 8 PD4(T0) (io), 9 PD5(T1/OC0B) (io), 10 GND, 11 (ICP)PD6 (io), 12 (AIN0)PB0 (io), 13 (AIN1)PB1 (io), 14 (OC0A)PB2 (io), 15 (OC1A)PB3 (io), 16 (OC1B)PB4 (io), 17 (DI/SDA)PB5 (io), 18 (DO)PB4 (io), 19 (UCSK/SCK)PB7 (io), 20 VCC

## AVR.ATtiny2313MLF32
designator U?
Manufacturer: Atmel; Flash: Kb; SRAM: Bytes; Volt: V; CPU Speed (MIPS): 0 MIPS; ComponentLink1Description: Degikey Part link; ComponentLink2Description: Open DataSheet; ComponentLink2URL: H:\LIBRARY\LIBRARY.Datasheet\; Publisher: Hoang Nguyen
pins: 1 nc, 2 PA1(XTAL2), 3 PA0(XTAL1), 4 nc, 5 nc, 6 PD2(INT0) (io), 7 nc, 8 nc, 9 PD3(INT1) (io), 10 PD4(T0) (io), 11 PD5(OC0B/T1) (io), 12 GND, 13 PD6(ICP) (io), 14 PB0(AIN0) (io), 15 PB1(AIN1) (io), 16 nc, 17 nc, 18 (OC0A)PB2 (io), 19 (OC1A)PB3 (io), 20 nc, 21 nc, 22 nc, 23 (OC1B)PB4 (io), 24 nc, 25 nc, 26 (DI/SDA)PB5 (io), 27 (DO)PB6 (io), 28 (UCSK/SCK)PB7 (io), 29 VCC, 30 (~{RESET})PA2 (in), 31 (RXD)PD0 (io), 32 (TXD)PD1 (io), 33 Bottom

## B548
designator U?
Vendor: Digikey; Published: 13-April-2009; Publisher: Hoang Nguyen; ComponentLink1Description: Digikey Part Link; ComponentLink2Description: Open Datasheet; ComponentLink2URL: H:\LIBRARY\LIBRARY.Datasheet\
pins: B BASE (in), C COLLECTOR, E EMITOR

## B562
designator T?
footprint TO-220-3 (TO-220; 3 Leads; Solder Pad 35mil)
pins: 1 E, 2 C, 3 B

## B688
designator U?
Vendor: Digikey; Published: 13-April-2009; Publisher: Hoang Nguyen; ComponentLink1Description: Digikey Part Link; ComponentLink2Description: Open Datasheet; ComponentLink2URL: H:\LIBRARY\LIBRARY.Datasheet\
pins: 1 EMITOR, 2 COLLECTOR, 3 BASE (in)

## BA1404
designator U?  (value not drawn)
HI-FI Stereo FM Transmitter 88 - 108 MHz; Vendor: Digikey; Published: 13-April-2009; Publisher: Hoang Nguyen; ComponentLink1Description: Digikey Part Link; ComponentLink2Description: Open Datasheet; ComponentLink2URL: H:\LIBRARY\LIBRARY.Datasheet\
pins: 1 AIN1, 2 NC8, 3 GND (power), 4 NC1, 5 NC2, 6 NC3, 7 OUT, 8 T1, 9 T2, 10 T3, 11 NC7, 12 T4, 13 NC4, 14 T5, 15 VIN, 16 NC5, 17 NC6, 18 AIN2

## BA 1VA
designator BA?
footprint BA 1VA
pins: 1 VOUT, 2 NC, 3 AC_OUT, 4 AC_IN, 5 AC_IN

## BAS40
designator D?
Schottky Diode; Vendor: Digikey; Published: 5-Jan-2004; DatasheetDocument: Rev. 1.4, 14-Oct-03; Publisher: Altium Limited; ComponentLink1Description: Digikey Part Link; ComponentLink2Description: Open Datasheet; ComponentLink2URL: H:\LIBRARY\LIBRARY.Datasheet\
footprint SO-G3 (SOT-23; 3 Leads; 1.9mm x 2.2 mm (LxW))
pcadlib SO-G3 (SOT-23; 3 Leads; 1.9mm x 2.2 mm (LxW))
pins: 1, 2, 3

## BAS40-04
designator D?
Dual Schottky Diode, series connected; Vendor: Digikey; Published: 5-Jan-2004; DatasheetDocument: Rev. 1.4, 14-Oct-03; Publisher: Altium Limited; ComponentLink1Description: Digikey Part Link; ComponentLink2Description: Open Datasheet; ComponentLink2URL: H:\LIBRARY\LIBRARY.Datasheet\
footprint SO-G3 (SOT-23; 3 Leads; 1.9mm x 2.2 mm (LxW))
pcadlib SO-G3 (SOT-23; 3 Leads; 1.9mm x 2.2 mm (LxW))
pins: 1, 2, 3

## BATT 3_6V
designator B?  value 3.6V-60mA  (hidden comment: *)
NiCa battery c.s. 3.6V 60 mA; Vendor: Digikey; Published: 13-April-2009; Publisher: Hoang Nguyen; ComponentLink1Description: Digikey Part Link; ComponentLink2Description: Open Datasheet; ComponentLink2URL: H:\LIBRARY\LIBRARY.Datasheet\
footprint BATT-Li-3.6V-60mA
footprint BATT-Li-3.3V
text: +

## BATT-Holder
designator B?  value 3.3V  (hidden comment: *)
Battery holder; Manufacturer: China; Vendor: Digikey; Publisher: Hoang Nguyen; Published: 13-April-2009; ComponentLink1Description: Digikey Part Link; ComponentLink2Description: Open Datasheet; ComponentLink2URL: H:\LIBRARY\LIBRARY.Datasheet\; Price: 3000 VND
footprint Batt_Holder (Battery Holders)
footprint BATT-LI-Bott-20mm
footprint BATT-LI-Bott-22mm
footprint BATT-LI-Bott-22mm_N
pins: 1 +, 2 -

## BATT_AA
designator B?  value 1.2V  (hidden comment: *)
Battery SMD type AA; Vendor: Digikey; Published: 13-April-2009; Publisher: Hoang Nguyen; ComponentLink1Description: Digikey Part Link; ComponentLink2Description: Open Datasheet; ComponentLink2URL: H:\LIBRARY\LIBRARY.Datasheet\
footprint BATT_AA
pins: 1 P, 2 N
text: +

## BAW56/SOT_0
designator D?
ComponentLink1Description: Digikey Part Link; ComponentLink2Description: Open Datasheet; ComponentLink2URL: H:\LIBRARY\LIBRARY.Datasheet\
pins: 1, 2, 3

## BL9148
designator U?  (value not drawn)
General infrared Ray Remote Control Transmitter; Vendor: Digikey; Published: 13-April-2009; Publisher: Hoang Nguyen; ComponentLink1Description: Digikey Part Link; ComponentLink2Description: Open Datasheet; ComponentLink2URL: H:\LIBRARY\LIBRARY.Datasheet\
pins: 1 GND (power), 2 X1, 3 /X2, 4 K1, 5 K2, 6 K3, 7 K4, 8 K5, 9 K6, 10 T1, 11 T2, 12 T3, 13 Code, 14 /Test, 15 Out, 16 VCC (power)

## BL9149
designator U?  (value not drawn)
Infrared Ray Remote Control  Receiver; Vendor: Digikey; Published: 13-April-2009; Publisher: Hoang Nguyen; ComponentLink1Description: Digikey Part Link; ComponentLink2Description: Open Datasheet; ComponentLink2URL: H:\LIBRARY\LIBRARY.Datasheet\
footprint Dip16
pins: 1 MASS, 2 IN, 3 HP1, 4 HP2, 5 HP3, 6 HP4, 7 HP5, 8 SP5, 9 SP4, 10 SP3, 11 SP2, 12 SP1, 13 CODE3, 14 CODE2, 15 OSC, 16 VDD

## BSS84
designator Q?
P-Channel Enhancement Mode FET; Vendor: Digikey; Published: 5-Jan-2004; DatasheetDocument: RevB, July 2002; Publisher: Altium Limited; ComponentLink1Description: Digikey Part Link; ComponentLink2Description: Open Datasheet; ComponentLink2URL: H:\LIBRARY\LIBRARY.Datasheet\
footprint SO-G3 (SOT-23; 3 Leads; 1.9mm x 2.2 mm (LxW))
pcadlib SO-G3 (SOT-23; 3 Leads; 1.9mm x 2.2 mm (LxW))
pins: 1 G "Gate", 2 S "Source", 3 D "Drain"

## BSS138
designator Q?
HEXFET N-Channel Power MOSFET; Note: Pin 2 is electrically connected to pin 4.; Published: 8-Jun-2000; LatestRevisionDate: 17-Jul-2002; LatestRevisionNote: Re-released for DXP Platform.; DatasheetVersion: PD-9.373H; PackageVersion: Feb-1997; PackageReference: TO-220AB; Publisher: Altium Limited; PackageDescription: TO, Thru-Hole, Vertical, Heatsink Mounted; 3 In-Line Leads; Pitch 2.54 mm; ComponentLink1Description: Manufacturer Link; ComponentLink1URL: http://www.irf.com/
footprint SOT23-3 (SOT-23; 3 Leads; Body 3.1 x 2.5 mm, inc. leads (LxW max)); pin to pad 1>3 2>1 3>2
pins: 1 G, 2 D, 3 S

## BTA16
designator T?
Triac; ComponentLink2Description: Open Datasheet; ComponentLink2URL: H:\LIBRARY\LIBRARY.Datasheet\
footprint TO220_Horizontal (TO, Thru-Hole, Horizontal Heatsink Mounted; 3 In-Line Leads; Pitch 2.54 mm)
footprint TO-220
footprint TO-220N
footprint TO220_Hor_N (TO, Thru-Hole, Horizontal Heatsink Mounted; 3 In-Line Leads; Pitch 2.54 mm)
pins: 1 G, 2 A1, 3 A2

## Buzzer
designator LS?
Magnetic Transducer Buzzer; Published: 24-Mar-1999; LatestRevisionDate: 17-Dec-2003; LatestRevisionNote: Schematic revised, PCB Footprint replaced.; DatasheetDocument: 17-Dec-2003; PackageReference: ABSM-1574; Publisher: Altium Limited; ComponentLink1Description: Manufacturer Link; ComponentLink1URL: http://www.megastar.com/linecard/buzzmode/index.php
footprint Buzzer (Buzzer; Solder Pad 35mil)
pins: 1, 2
1 alternate drawing of the same symbol

## BZG03C13
designator D?
Zener Diode, 6.2V, 5W; Vendor: Digikey; Published: 5-Jan-2004; DatasheetDocument: RevB, 21-Aug-2003; Publisher: Altium Limited; ComponentLink1Description: Digikey Part Link; ComponentLink2Description: Open Datasheet; ComponentLink2URL: H:\LIBRARY\LIBRARY.Datasheet\
footprint DO214 (2 C-Bend Leads; Body 4.3 x 3.6 mm (LxW))
pcadlib DO214 (2 C-Bend Leads; Body 4.3 x 3.6 mm (LxW))
pins: 1 A, 2 K

## C1100 Module
designator M?
Texas Instrument Radio module; Freq: *; Tx Power: *; Power Supply: *
footprint C1100 Module (TI Wireless Module)
footprint NXP RF Module (NXP Wireless Module)
pins: 1 VCC, 2 GND, 3 SI, 4 SCLK, 5 SO, 6 GDO0, 7 GDO2, 8 CSN, 9 GND, 10 ANT, 11 GND

## C1815
designator Q?  (value not drawn)
Q2SC1815; PSpiceTemplate: Q^@REFDES %c %b %e @MODEL; Vendor: Digikey; COMPONENT: 2SC1815; Published: 13-April-2009; Publisher: Hoang Nguyen; ComponentLink1Description: Digikey Part Link; ComponentLink2Description: Open Datasheet; ComponentLink2URL: H:\LIBRARY\LIBRARY.Datasheet\; Price: 500VND
footprint TO92-ECB
simulation model Q2SC1815
footprint SOT23 [C1815] (SOT23, 3-Leads, Body 3.0x2.6mm (max), Pitch 0.95mm, IPC Medium Density)
footprint SOT23N (SOT23, 3-Leads, Body 3.0x2.6mm (max), Pitch 0.95mm, IPC Medium Density)
footprint TO92-ECB-W (C1815)
pins: 1 B, 2 E, 3 C

## C2383
designator U?
Transistor NPN; Vendor: Digikey; Published: 13-April-2009; Publisher: Hoang Nguyen; ComponentLink1Description: Digikey Part Link; ComponentLink2Description: Open Datasheet; ComponentLink2URL: H:\LIBRARY\LIBRARY.Datasheet\
pins: B BASE (in), C COLLECTOR, E EMITOR

## Cap Non-pol
designator C?  value 100uF  (hidden comment: Cap Non-pol)
Non-polarized Capacitor; Published: 8-Jun-2000; LatestRevisionDate: 17-Jul-2002; LatestRevisionNote: Re-released for DXP Platform.; PackageReference: RAD-0.3; Publisher: Altium Limited
footprint C-NP-0805 (Chip Capacitor; Non-polarized; Body 2.0 x 1.3 mm (LxW typ); Solder Pad 35mil)
footprint Cap Non-Pol 3mm (Capacitor, Radial; Body 5.6 x 2.5 mm (L x W typ); Pin Spacing 3 mm (typ); Solder Pad 35mil)
footprint Cap Non-Pol 5mm (Capacitor, Radial; Body 8 x 3 mm (L x W typ); Pin Spacing 5 mm (typ); Solder Pad 35mil)
footprint Cap Non-Pol 8mm (Capacitor, Radial; Body 11.4 x 5.6 mm (L x W typ); Pin Spacing 8 mm (typ); Solder Pad 35mil)
pins: 1, 2

## Cap Pol
designator C?  value 100uF  (hidden comment: Cap Pol)
Polarized Capacitor; Published: 8-Jun-2000; LatestRevisionDate: 17-Jul-2002; LatestRevisionNote: Re-released for DXP Platform.; PackageReference: POLAR0.8; Publisher: Altium Limited
footprint C-P-0805 (Chip Capacitor; Polarized; Body 2.0 x 1.3 mm (LxW typ); Solder Pad 35mil)
footprint C-P-1206 (Chip Capacitor; Body 3.2 x 1.6 mm (LxW typ) [3216])
footprint C-P-2312 (Chip Capacitor; Polarized; Body 6.0 x 3.2 mm (LxW typ) [6032])
footprint C-P-1210 (Chip Capacitor; Body 3.2 x 2.5 mm (LxW typ) [3225])
footprint RADIAL C (Capacitor, Electrolytic, Radial; Body 6.3 x 6.8 mm (Dia.xH typ); Pin Spacing 2.5 mm (typ))
footprint RADIAL D (Capacitor, Electrolytic, Radial; Body 6.3 x 9.8 mm (Dia.xH typ); Pin Spacing 2.5 mm (typ))
footprint RADIAL E (Capacitor, Electrolytic, Radial; Body 8 x 10.5 mm (Dia.xH typ); Pin Spacing 3.5 mm (typ))
footprint RADIAL F (Capacitor, Electrolytic, Radial; Body 10 x 10.5 mm (Dia.xH typ); Pin Spacing 5 mm (typ))
footprint RADIAL B (Capacitor, Electrolytic, Radial; Body 5 x 6.8 mm (Dia.xH typ); Pin Spacing 2 mm (typ))
footprint RADIAL G (Capacitor, Electrolytic, Radial; Body 12.5 x 22 mm (Dia.xH typ); Pin Spacing 5 mm (typ))
pins: 1, 2
1 alternate drawing of the same symbol

## Cap_Pol
designator C?, comment Capacitor Type: Tant  Volt: 25V  (hidden comment: 1uF)
Polarized Capacitor; Manufacturer: FARNELL; AEMS Code: 2100110; Vendor: Digikey; Published: 13-April-2009; Publisher: Hoang Nguyen; ComponentLink1Description: Digikey Part Link; ComponentLink2Description: Open Datasheet; ComponentLink2URL: H:\LIBRARY\LIBRARY.Datasheet\; Value: 1uF
footprint C2012-0805 (Capacitor Chip 0805 package)
footprint C1608-0603 (Capacitor Chip 0603 package)
footprint RADIAL A (Capacitor, Electrolytic, Radial; Body 4 x 6.8 mm (Dia.xH typ); Pin Spacing 2 mm (typ))
footprint RADIAL A' (Capacitor, Electrolytic, Radial; Body 4 x 5 mm (Dia.xH typ); Pin Spacing 1.5 mm (typ))
footprint RADIAL B (Capacitor, Electrolytic, Radial; Body 5 x 6.8 mm (Dia.xH typ); Pin Spacing 2 mm (typ))
footprint RADIAL C (Capacitor, Electrolytic, Radial; Body 6.3 x 6.8 mm (Dia.xH typ); Pin Spacing 2.5 mm (typ))
footprint RADIAL D (Capacitor, Electrolytic, Radial; Body 6.3 x 9.8 mm (Dia.xH typ); Pin Spacing 2.5 mm (typ))
footprint RADIAL E (Capacitor, Electrolytic, Radial; Body 8 x 10.5 mm (Dia.xH typ); Pin Spacing 3.5 mm (typ))
footprint RADIAL F (Capacitor, Electrolytic, Radial; Body 10 x 10.5 mm (Dia.xH typ); Pin Spacing 5 mm (typ))
footprint RADIAL G (Capacitor, Electrolytic, Radial; Body 12.5 x 22 mm (Dia.xH typ); Pin Spacing 5 mm (typ))
footprint RADIAL H(2200u_50V) (Capacitor, Electrolytic, Radial; Body 16 x 25 mm (Dia.xH typ); Pin Spacing 7.5 mm (typ))
footprint AXIAL14.05-10.5x6.3 (Capacitor, Axial, Polarised; Body 10.5 x 6.3 mm (LxDia. max), Lead Dia. 0.6 mm (typ))
footprint AXIAL23.6-18.5x8.5 (Capacitor, Axial, Polarised; Body 18.5 x 8.5 mm (LxDia. max), Lead Dia. 0.8 mm (typ))
footprint AXIAL31.6-26.5x12.5 (Capacitor, Axial, Polarised; Body 26.5 x 12.5 mm (LxDia. max), Lead Dia. 0.8 mm (typ))
footprint AXIAL35.6-30.5x18.5 (Capacitor, Axial, Polarised; Body 30.5 x 18.5 mm (LxDia. max), Lead Dia. 0.8 mm (typ))
footprint AXIAL46.1-41x21.5 (Capacitor, Axial, Polarised; Body 41 x 21.5 mm (LxDia. max), Lead Dia. 0.8 mm (typ))
footprint CAP_SMD_6_3MM (47uF 25V)
footprint Cap_smd_4_3MM (10uF SMD)
footprint RADIAL E(470u 25V) (Capacitor, Electrolytic, Radial; Body 8 x 10.5 mm (Dia.xH typ); Pin Spacing 3.5 mm (typ))
footprint Cap SMD Tant
footprint Cap_smd_4_3MM_N (10uF SMD)
footprint CAP_SMD_6_3MM_N (47uF 25V)
pins: 1, 2

## Capacitor
designator C?, comment 100nF
Capacitor; AEMS Code: 2100341; Vendor: Digikey; Volt: 16V; Published: 13-April-2009; Publisher: Hoang Nguyen; ComponentLink1Description: Digikey Part Link; ComponentLink2Description: Open Datasheet; ComponentLink2URL: H:\LIBRARY\LIBRARY.Datasheet\; Value: 100nF
signal-integrity model Guessed Model (Capacitor Model Details Guessed by Setup Helper)
footprint C1608-0603 (Capacitor Chip 0603 package)
footprint C2012-0805 (Capacitor Chip 0805 package)
3D model SMT_0603 (PCB3D Model)
3D model SMT_0805 (PCB3D Model)
3D model SMT_1210 (PCB3D Model)
3D model PolySwitch2 (PCB3D Model)
footprint C1206 (Footprint not found)
footprint C1210 (Footprint not found)
footprint C2225 (Footprint not found)
footprint CAPBYPASS (Footprint not found)
footprint CK32-3.2 (Capacitor, Ceramic, Thru-Hole, Dipped Radial; Body 5.1 x 3.2 mm (WxT) Pin Spacing 2.54 mm (typ))
footprint CK45-3.2 (Capacitor, Ceramic, Thru-Hole, Dipped Radial; Body 7.8 x 3.2 mm (WxT) Pin Spacing 5.08 mm (typ))
footprint RAD-0.1 (Cap 200x100 - 100)
footprint RAD-0.2 (Cap 350x150 - 200)
footprint RAD-0.3 (Cap 450x150 - 300)
footprint RAD-0.4 (Cap 550x150 - 400)
pins: 1, 2

## CapSense.Key
designator B?
Capsense Key
footprint TouchKey
footprint TouchKey_R9mm (Radius 9mm)
pins: 1

## CapSense.KeyMatrix
designator B?
Capsense Key
footprint TouchKey2 (Radius 5mm)
footprint TouchKey2_R9mm (Radius 9mm)
pins: 1, 2

## Capsense.MultiButton
designator B?
Capsense MultiButton
footprint Touch_MultiButton
pins: 1, 2, 3, 4, 5, 6, 7, 8

## Capsense.MultiButton6
designator B?
Capsense MultiButton
footprint Touch_MultiButton6
pins: 1, 2, 3, 4, 5, 6

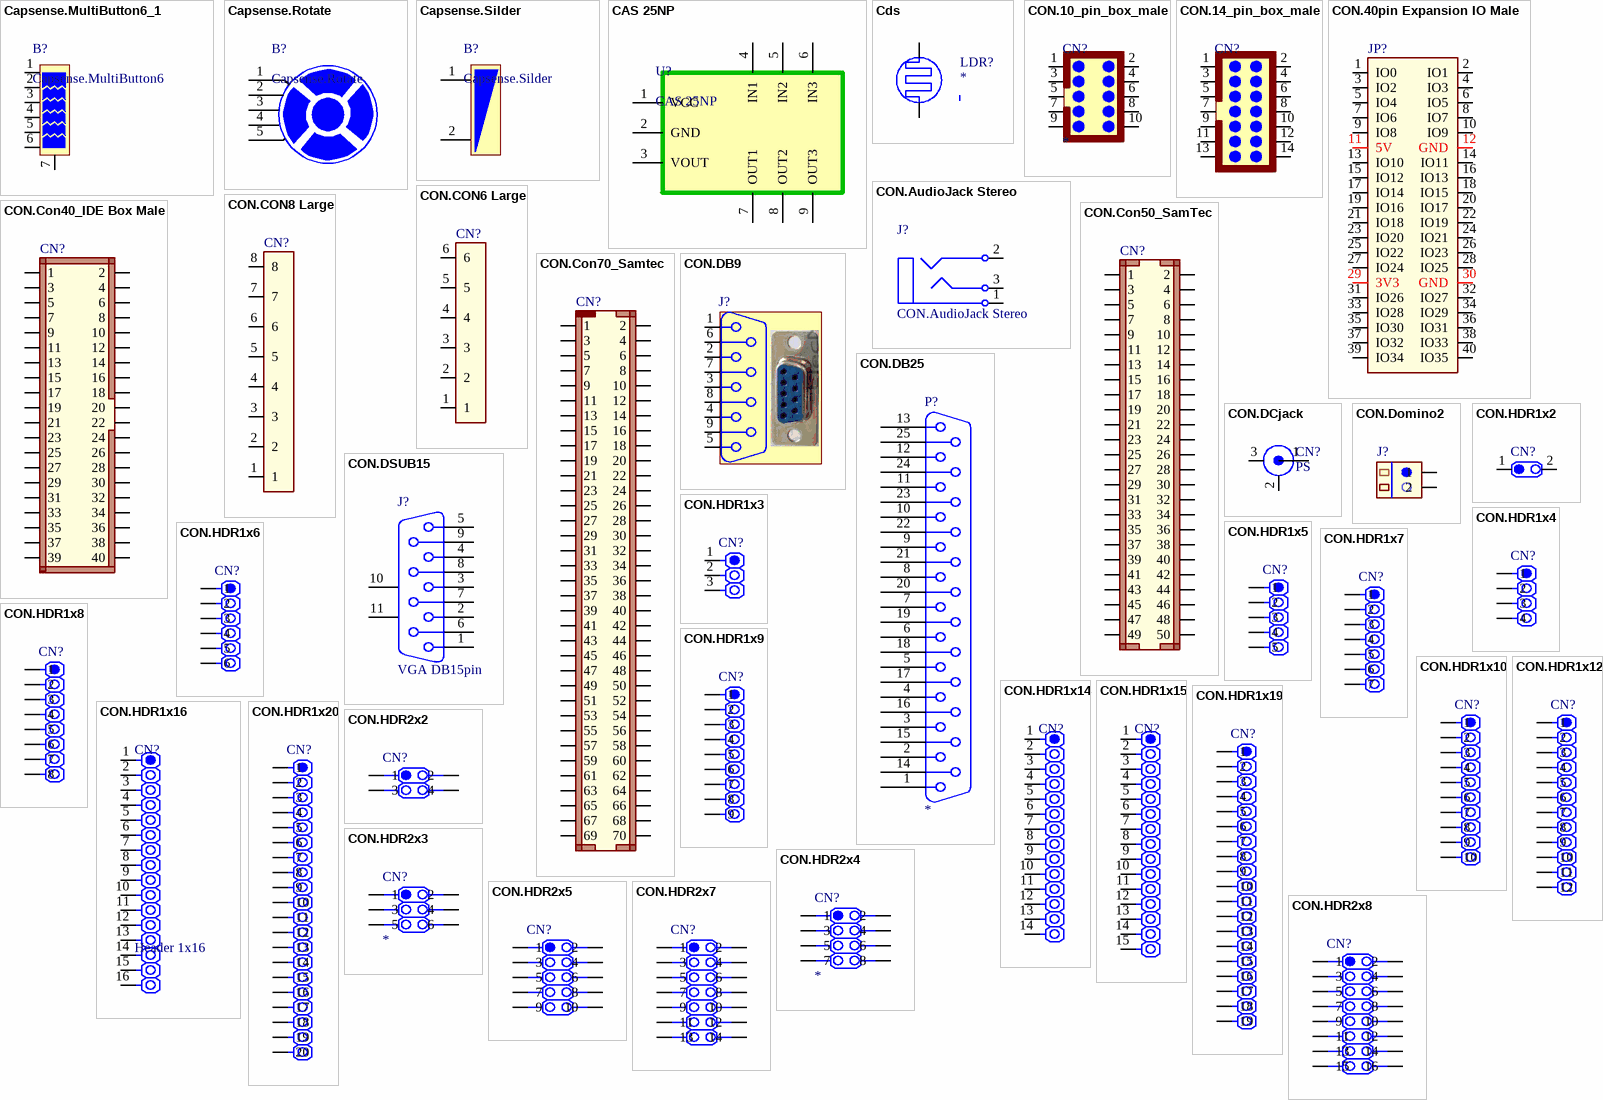
[diagram p7: symbols Capsense.MultiButton6_1 to CON.HDR2x8]

## Capsense.MultiButton6_1
designator B?, comment Capsense.MultiButton6
Capsense MultiButton
footprint Touch_MultiButton6_1
pins: 1, 2, 3, 4, 5, 6, 7

## Capsense.Rotate
designator B?
Capsense Matrix
footprint TouchMatrix
pins: 1, 2, 3, 4, 5

## Capsense.Silder
designator B?
Capsense Slider
footprint TouchSlider
pins: 1, 2

## CAS 25NP
designator U?
footprint CAS 25NP (Current Sensor LEM)
pins: 1 VCC, 2 GND, 3 VOUT, 4 IN1, 5 IN2, 6 IN3, 7 OUT1, 8 OUT2, 9 OUT3

## Cds
designator LDR?
A photoresistor or light dependent resistor or cadmium sulfide (CdS) cell; Vendor: Digikey; Published: 13-April-2009; Publisher: Hoang Nguyen; ComponentLink1Description: Digikey Part Link; ComponentLink2Description: Open Datasheet; ComponentLink2URL: H:\LIBRARY\LIBRARY.Datasheet\
pins: 1, 2

## CON.10_pin_box_male
designator CN?
10 pin box male; Publisher: Hoang Nguyen; ComponentLink1Description: Digikey Part link; ComponentLink2Description: Open DataSheet; ComponentLink2URL: H:\LIBRARY\LIBRARY.Datasheet\
3D model 10_pin_box_male (PCB3D Model)
3D model TSS-105-01-X-D (PCB3D Model)
3D model TSS-105-04-X-D-RA (PCB3D Model)
footprint 10 pin box male
footprint 10 pin box male Vertical (Connector; IDC, Low Profile Male Header, Thru-Hole; 10 Position; Right Angle; Pitch 2.54 mm; Body 20.32 x 8.9 x 9.2 mm (LxWxH))
pins: 1, 2, 3, 4, 5, 6, 7, 8, 9, 10

## CON.14_pin_box_male
designator CN?  (value not drawn)
14 pins box male; Publisher: Hoang Nguyen; ComponentLink1Description: Digikey Part link; ComponentLink2Description: Open DataSheet; ComponentLink2URL: H:\LIBRARY\LIBRARY.Datasheet\
3D model TSS-107-01-X-D (PCB3D Model)
footprint 14 pin box male
footprint 14 pin box male Vertical (Connector; IDC, Low Profile Male Header, Thru-Hole; 14 Position; Right Angle; Pitch 2.54 mm; Body 25.40 x 8.9 x 9.2 mm (LxWxH))
pins: 1, 2, 3, 4, 5, 6, 7, 8, 9, 10, 11, 12, 13, 14

## CON.40pin Expansion IO Male
designator JP?  (value not drawn)
40pin Expansion IO Male; Publisher: Hoang Nguyen; ComponentLink1Description: Digikey Part link; ComponentLink2Description: Open DataSheet; ComponentLink2URL: H:\LIBRARY\LIBRARY.Datasheet\
footprint HDR2X20
footprint HDR2X20H
pins: 1 IO0, 2 IO1, 3 IO2, 4 IO3, 5 IO4, 6 IO5, 7 IO6, 8 IO7, 9 IO8, 10 IO9, 11 5V, 12 GND, 13 IO10, 14 IO11, 15 IO12, 16 IO13, 17 IO14, 18 IO15, 19 IO16, 20 IO17, 21 IO18, 22 IO19, 23 IO20, 24 IO21, 25 IO22, 26 IO23, 27 IO24, 28 IO25, 29 3V3, 30 GND, 31 IO26, 32 IO27, 33 IO28, 34 IO29, 35 IO30, 36 IO31, 37 IO32, 38 IO33, 39 IO34, 40 IO35

## CON.AudioJack Stereo
designator J?
AUDIO JACK 3.5MM STEREO SMD; Vendor: Digi-Key; Vendor P/N: CP-3523SJTR-ND; Published: 5-Jan-2004; DatasheetDocument: 07-Mar-2000; Publisher: Altium Limited; Mounting Type: Surface Mount, Right Angle; ComponentLink1Description: Digikey Part link; ComponentLink1URL: http://search.digikey.com/scripts/DkSearch/dksus.dll?Detail&name=CP-3523SJTR-ND; ComponentLink2Description: Open DataSheet; ComponentLink2URL: H:\LIBRARY\LIBRARY.Datasheet\
pcadlib ST-3150-5N (Stereo Jack, 3.5mm, 5 Position)
footprint SJ-3523-SMT (CONN AUDIO JACK 3.5MM STEREO SMD)
footprint Audio jack 3.5mm
pins: 1, 2, 3

## CON.CON6 Large
designator CN?  (value not drawn)
CON 6 LARGE; Publisher: Hoang Nguyen; ComponentLink1Description: Digikey Part link; ComponentLink2Description: Open DataSheet; ComponentLink2URL: H:\LIBRARY\LIBRARY.Datasheet\
footprint 6CHANNEWS
pins: 1, 2, 3, 4, 5, 6

## CON.CON8 Large
designator CN?  (value not drawn)
8 pins large Connector; Publisher: Hoang Nguyen; ComponentLink1Description: Digikey Part link; ComponentLink2Description: Open DataSheet; ComponentLink2URL: H:\LIBRARY\LIBRARY.Datasheet\
footprint 8CHANNEWS
pins: 1, 2, 3, 4, 5, 6, 7, 8

## CON.Con40_IDE Box Male
designator CN?  (value not drawn)
40pins IDE Box Male; Publisher: Hoang Nguyen; ComponentLink1Description: Digikey Part link; ComponentLink2Description: Open DataSheet; ComponentLink2URL: H:\LIBRARY\LIBRARY.Datasheet\
footprint HDR2X20H
footprint HDR2X20
pins: 1, 2, 3, 4, 5, 6, 7, 8, 9, 10, 11, 12, 13, 14, 15, 16, 17, 18, 19, 20, 21, 22, 23, 24, 25, 26, 27, 28, 29, 30, 31, 32, 33, 34, 35, 36, 37, 38, 39, 40

## CON.Con50_SamTec
designator CN?  (value not drawn)
50 pins SamTec Connector; Publisher: Hoang Nguyen; ComponentLink1Description: Digikey Part link; ComponentLink2Description: Open DataSheet; ComponentLink2URL: H:\LIBRARY\LIBRARY.Datasheet\
footprint Con50_SamTec
pins: 1, 2, 3, 4, 5, 6, 7, 8, 9, 10, 11, 12, 13, 14, 15, 16, 17, 18, 19, 20, 21, 22, 23, 24, 25, 26, 27, 28, 29, 30, 31, 32, 33, 34, 35, 36, 37, 38, 39, 40, 41, 42, 43, 44, 45, 46, 47, 48, 49, 50

## CON.Con70_Samtec
designator CN?  (value not drawn)
70 Pins Samtec Connector; Publisher: Hoang Nguyen; ComponentLink1Description: Digikey Part link; ComponentLink2Description: Open DataSheet; ComponentLink2URL: H:\LIBRARY\LIBRARY.Datasheet\
footprint Con70_Samtec
pins: 1, 2, 3, 4, 5, 6, 7, 8, 9, 10, 11, 12, 13, 14, 15, 16, 17, 18, 19, 20, 21, 22, 23, 24, 25, 26, 27, 28, 29, 30, 31, 32, 33, 34, 35, 36, 37, 38, 39, 40, 41, 42, 43, 44, 45, 46, 47, 48, 49, 50, 51, 52, 53, 54, 55, 56, 57, 58, 59, 60, 61, 62, 63, 64, 65, 66, 67, 68, 69, 70

## CON.DB9
designator J?  (value not drawn)
CONN DB9 FEMALE .318" R/A NICKEL; Manufacturer: Norcomp Inc; Manufacturer P/N: 182-009-213R161; Vendor: DegiKey; Vendor P/N: 182-709FE-ND; Publisher: Hoang Nguyen; ComponentLink1Description: Digikey Part link; ComponentLink2Description: Open DataSheet; ComponentLink2URL: H:\LIBRARY\LIBRARY.Datasheet\; Price: 3.000VND
footprint DSUB1.9_FEMALE (7906 Series DSUB Right Angle Socket; Body Width, 30.81mm, 9 Positions)
footprint DSUB1.9_MALE (7906 Series DSUB Right Angle Plug; Body Width, 30.81mm, 9 Positions)
footprint DSUB1.9_FEMALE_N (7906 Series DSUB Right Angle Socket; Body Width, 30.81mm, 9 Positions)
footprint DSUB1.9_FEMALE_M (7906 Series DSUB Right Angle Socket; Body Width, 30.81mm, 9 Positions)
footprint DSUB1.9_modified (7906 Series DSUB Right Angle Socket; Body Width, 30.81mm, 9 Positions)
pins: 1, 2, 3, 4, 5, 6, 7, 8, 9

## CON.DB25
designator P?
Parallel Port; ComponentLink1Description: Digikey Part link; ComponentLink2Description: Open DataSheet; ComponentLink2URL: H:\LIBRARY\LIBRARY.Datasheet\
pins: 1, 2, 3, 4, 5, 6, 7, 8, 9, 10, 11, 12, 13, 14, 15, 16, 17, 18, 19, 20, 21, 22, 23, 24, 25

## CON.DCjack
designator CN?, comment PS
DC Power Jack, 2.5mm, KLD Series, PCB Mount; Vendor: Nhat Tao; ComponentLink1Description: Digikey Part link; ComponentLink2Description: Open DataSheet; ComponentLink2URL: H:\LIBRARY\LIBRARY.Datasheet\; Price: 1.500VND
footprint DC TERMINAL (DC Terminal; Solder Pad 30mil)
footprint JACK DC
pins: 1 CENTER (power), 2 SHIELD (power), 3 SHIELD

## CON.Domino2
designator J?  (value not drawn)
2 pins Domino Header; Publisher: Hoang Nguyen; ComponentLink1Description: Digikey Part link; ComponentLink2Description: Open DataSheet; ComponentLink2URL: H:\LIBRARY\LIBRARY.Datasheet\; Price: 2000VND
footprint TS2.54x2 (Screw Terminal Strip, 2 Way, 2.54 mm Pitch)
footprint Domino 2
footprint Domino 2 - Thao roi
footprint Domino 2N
footprint Domino 2M
pins: 1, 2

## CON.DSUB15
designator J?, comment VGA DB15pin
Published: 5-Jan-2004; Publisher: Altium Limited; ComponentLink1Description: Digikey Part link; ComponentLink2Description: Open DataSheet; ComponentLink2URL: H:\LIBRARY\LIBRARY.Datasheet\; Price: 3500VND
footprint DSUB1.385-2H9 (7906 Series DSUB Right Angle Socket; Body Width, 30.81mm, 9 Positions)
pcadlib DSUB1.385-2H9 (7906 Series DSUB Right Angle Socket; Body Width, 30.81mm, 9 Positions)
pins: 1, 2, 3, 4, 5, 6, 7, 8, 9, 10 MH1, 11 MH2

## CON.HDR1x2
designator CN?, comment IO  (value not drawn)
Header 1x2; Publisher: Hoang Nguyen; ComponentLink1Description: Digikey Part link; ComponentLink2Description: Open DataSheet; ComponentLink2URL: H:\LIBRARY\LIBRARY.Datasheet\
footprint CON.HDR1X2
3D model HDR2x1 (PCB3D Model)
footprint CON.HDR1X2H
3D model TSW-102-06-X-S (PCB3D Model)
3D model TSW-102-07-X-S (PCB3D Model)
pins: 1, 2

## CON.HDR1x3
designator CN?, comment IO  (value not drawn)
Header 1x3; Publisher: Hoang Nguyen; ComponentLink1Description: Digikey Part link; ComponentLink2Description: Open DataSheet; ComponentLink2URL: H:\LIBRARY\LIBRARY.Datasheet\
footprint CON.HDR1X3
footprint CON.HDR1X3H
footprint CON1X3N (Footprint not found)
pins: 1, 2, 3

## CON.HDR1x4
designator CN?, comment IO  (value not drawn)
Header 1x4; Publisher: Hoang Nguyen; ComponentLink1Description: Digikey Part link; ComponentLink2Description: Open DataSheet; ComponentLink2URL: H:\LIBRARY\LIBRARY.Datasheet\
footprint CON.HDR1X4
footprint CON.HDR1X4H
footprint CON1X4N
pins: 1, 2, 3, 4

## CON.HDR1x5
designator CN?, comment IO  (value not drawn)
Header 1x5; Publisher: Hoang Nguyen; ComponentLink1Description: Digikey Part link; ComponentLink2Description: Open DataSheet; ComponentLink2URL: H:\LIBRARY\LIBRARY.Datasheet\
footprint CON.HDR1X5
footprint CON.HDR1X5H
footprint CON1X5N
pins: 1, 2, 3, 4, 5

## CON.HDR1x6
designator CN?, comment IO  (value not drawn)
Header 1x6; Publisher: Hoang Nguyen; ComponentLink1Description: Digikey Part link; ComponentLink2Description: Open DataSheet; ComponentLink2URL: H:\LIBRARY\LIBRARY.Datasheet\
footprint CON.HDR1X6
footprint CON.HDR1X6H
footprint CON1X6N
pins: 1, 2, 3, 4, 5, 6

## CON.HDR1x7
designator CN?  (value not drawn)
Header 1x7; Publisher: Hoang Nguyen; ComponentLink1Description: Digikey Part link; ComponentLink2Description: Open DataSheet; ComponentLink2URL: H:\LIBRARY\LIBRARY.Datasheet\
footprint CON.HDR1X7
footprint CON.HDR1X7H
pins: 1, 2, 3, 4, 5, 6, 7

## CON.HDR1x8
designator CN?  (value not drawn)
Header 1x8; Publisher: Hoang Nguyen; ComponentLink1Description: Digikey Part link; ComponentLink2Description: Open DataSheet; ComponentLink2URL: H:\LIBRARY\LIBRARY.Datasheet\
footprint HDR1X8
footprint HDR1X8H
footprint CON1X8N
pins: 1, 2, 3, 4, 5, 6, 7, 8

## CON.HDR1x9
designator CN?  (value not drawn)
Header 1x9; Publisher: Hoang Nguyen; ComponentLink1Description: Digikey Part link; ComponentLink2Description: Open DataSheet; ComponentLink2URL: H:\LIBRARY\LIBRARY.Datasheet\
footprint HDR1X9
footprint HDR1X9H
pins: 1, 2, 3, 4, 5, 6, 7, 8, 9

## CON.HDR1x10
designator CN?  (value not drawn)
Header 1x10; Publisher: Hoang Nguyen; ComponentLink1Description: Digikey Part link; ComponentLink2Description: Open DataSheet; ComponentLink2URL: H:\LIBRARY\LIBRARY.Datasheet\
footprint HDR1X10
footprint HDR1X10H
footprint CON1X10N
pins: 1, 2, 3, 4, 5, 6, 7, 8, 9, 10

## CON.HDR1x12
designator CN?  (value not drawn)
Header 1x12; Publisher: Hoang Nguyen; ComponentLink1Description: Digikey Part link; ComponentLink2Description: Open DataSheet; ComponentLink2URL: H:\LIBRARY\LIBRARY.Datasheet\
footprint HDR1X12
footprint HDR1X12H
pins: 1, 2, 3, 4, 5, 6, 7, 8, 9, 10, 11, 12

## CON.HDR1x14
designator CN?  (value not drawn)
Header 1x14; Publisher: Hoang Nguyen; ComponentLink1Description: Digikey Part link; ComponentLink2Description: Open DataSheet; ComponentLink2URL: H:\LIBRARY\LIBRARY.Datasheet\
footprint HDR1X14
footprint HDR1X14H
footprint CON1X14N
pins: 1, 2, 3, 4, 5, 6, 7, 8, 9, 10, 11, 12, 13, 14

## CON.HDR1x15
designator CN?  (value not drawn)
Header 1x15; Publisher: Hoang Nguyen; ComponentLink1Description: Digikey Part link; ComponentLink2Description: Open DataSheet; ComponentLink2URL: H:\LIBRARY\LIBRARY.Datasheet\
footprint HDR1X15
footprint HDR1X15H
pins: 1, 2, 3, 4, 5, 6, 7, 8, 9, 10, 11, 12, 13, 14, 15

## CON.HDR1x16
designator CN?, comment Header 1x16
Publisher: Hoang Nguyen; Value: Header1x16; ComponentLink1Description: Digikey Part link; ComponentLink2Description: Open DataSheet; ComponentLink2URL: H:\LIBRARY\LIBRARY.Datasheet\
footprint HDR1X16
footprint HDR1X16H
pins: 1, 2, 3, 4, 5, 6, 7, 8, 9, 10, 11, 12, 13, 14, 15, 16

## CON.HDR1x19
designator CN?  (value not drawn)
Header 1x19; Publisher: Hoang Nguyen; ComponentLink1Description: Digikey Part link; ComponentLink2Description: Open DataSheet; ComponentLink2URL: H:\LIBRARY\LIBRARY.Datasheet\
footprint HDR1X19
footprint HDR1X19H
pins: 1, 2, 3, 4, 5, 6, 7, 8, 9, 10, 11, 12, 13, 14, 15, 16, 17, 18, 19

## CON.HDR1x20
designator CN?  (value not drawn)
Header 1x20; Publisher: Hoang Nguyen; ComponentLink1Description: Digikey Part link; ComponentLink2Description: Open DataSheet; ComponentLink2URL: H:\LIBRARY\LIBRARY.Datasheet\
footprint HDR1X20
footprint HDR1X20H
pins: 1, 2, 3, 4, 5, 6, 7, 8, 9, 10, 11, 12, 13, 14, 15, 16, 17, 18, 19, 20

## CON.HDR2x2
designator CN?  (value not drawn)
Header 2x2; Publisher: Hoang Nguyen; ComponentLink1Description: Digikey Part link; ComponentLink2Description: Open DataSheet; ComponentLink2URL: H:\LIBRARY\LIBRARY.Datasheet\
footprint HDR2X2
footprint HDR2X2H
pins: 1, 2, 3, 4

## CON.HDR2x3
designator CN?
Header 2x3; Publisher: Hoang Nguyen; ComponentLink1Description: Digikey Part link; ComponentLink2Description: Open DataSheet; ComponentLink2URL: H:\LIBRARY\LIBRARY.Datasheet\
footprint HDR2X3
footprint HDR2X3H
3D model TSW-103-08-X-D (PCB3D Model)
pins: 1, 2, 3, 4, 5, 6

## CON.HDR2x4
designator CN?
Header 2x4; Publisher: Hoang Nguyen; ComponentLink1Description: Digikey Part link; ComponentLink2Description: Open DataSheet; ComponentLink2URL: H:\LIBRARY\LIBRARY.Datasheet\
footprint HDR2X4
footprint HDR2X4H
3D model TSW-104-07-X-D (PCB3D Model)
3D model TSW-104-08-X-D-LC (PCB3D Model)
pins: 1, 2, 3, 4, 5, 6, 7, 8

## CON.HDR2x5
designator CN?  (value not drawn)
Header 2x5; Publisher: Hoang Nguyen; ComponentLink1Description: Digikey Part link; ComponentLink2Description: Open DataSheet; ComponentLink2URL: H:\LIBRARY\LIBRARY.Datasheet\
footprint HDR2X5
footprint HDR2X5H
footprint CON2x5N
pins: 1, 2, 3, 4, 5, 6, 7, 8, 9, 10

## CON.HDR2x7
designator CN?  (value not drawn)
Header 2x7; Publisher: Hoang Nguyen; ComponentLink1Description: Digikey Part link; ComponentLink2Description: Open DataSheet; ComponentLink2URL: H:\LIBRARY\LIBRARY.Datasheet\
footprint HDR2X7
footprint HDR2X8H
footprint CON2X7N
pins: 1, 2, 3, 4, 5, 6, 7, 8, 9, 10, 11, 12, 13, 14

## CON.HDR2x8
designator CN?  (value not drawn)
Header 2x8; Publisher: Hoang Nguyen; ComponentLink1Description: Digikey Part link; ComponentLink2Description: Open DataSheet; ComponentLink2URL: H:\LIBRARY\LIBRARY.Datasheet\
footprint HDR2X8
footprint HDR2X8H
footprint CON2X8N
pins: 1, 2, 3, 4, 5, 6, 7, 8, 9, 10, 11, 12, 13, 14, 15, 16

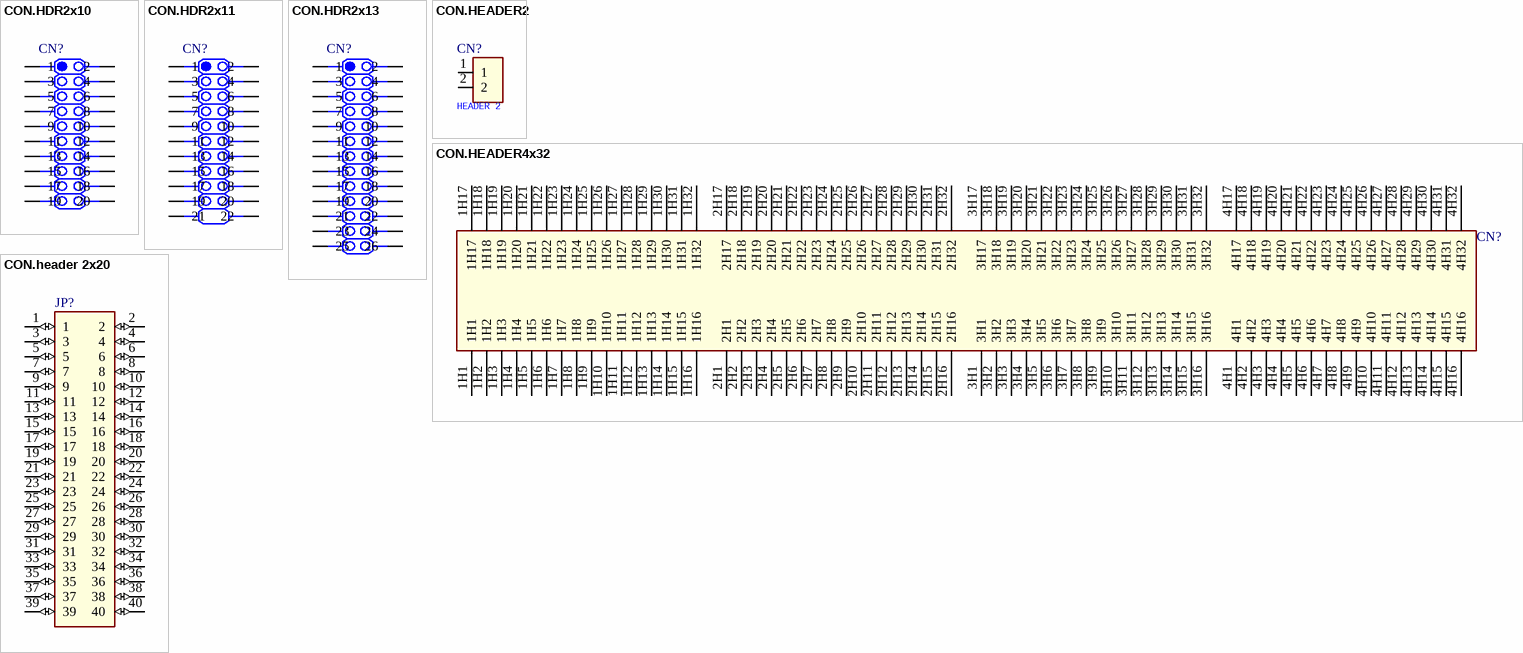
[diagram p8: symbols CON.HDR2x10 to CON.header 2x20]

## CON.HDR2x10
designator CN?  (value not drawn)
Header 2x10; Publisher: Hoang Nguyen; ComponentLink1Description: Digikey Part link; ComponentLink2Description: Open DataSheet; ComponentLink2URL: H:\LIBRARY\LIBRARY.Datasheet\
footprint HDR2X10
footprint HDR2X10H
3D model TSW-110-07-X-D (PCB3D Model)
3D model TSW-110-14-X-D (PCB3D Model)
pins: 1, 2, 3, 4, 5, 6, 7, 8, 9, 10, 11, 12, 13, 14, 15, 16, 17, 18, 19, 20

## CON.HDR2x11
designator CN?  (value not drawn)
Header 2x11; Publisher: Hoang Nguyen; ComponentLink1Description: Digikey Part link; ComponentLink2Description: Open DataSheet; ComponentLink2URL: H:\LIBRARY\LIBRARY.Datasheet\
footprint HDR2X11
footprint HDR2X11H
pins: 1, 2, 3, 4, 5, 6, 7, 8, 9, 10, 11, 12, 13, 14, 15, 16, 17, 18, 19, 20, 21, 22

## CON.HDR2x13
designator CN?  (value not drawn)
Header 2x13; Publisher: Hoang Nguyen; ComponentLink1Description: Digikey Part link; ComponentLink2Description: Open DataSheet; ComponentLink2URL: H:\LIBRARY\LIBRARY.Datasheet\
footprint HDR2X13
footprint HDR2X13H
pins: 1, 2, 3, 4, 5, 6, 7, 8, 9, 10, 11, 12, 13, 14, 15, 16, 17, 18, 19, 20, 21, 22, 23, 24, 25, 26

## CON.HEADER2
designator CN?  (value not drawn)
Header 1x2; ComponentLink1Description: Digikey Part link; ComponentLink2Description: Open DataSheet; ComponentLink2URL: H:\LIBRARY\LIBRARY.Datasheet\
pins: 1, 2
text: HEADER 2